# Altium schematic symbol library Richs Schematic Components.SchLib: 220 symbols (part 1 of 2)
Pins are listed as number, name and electrical type; pins without a type are passive.

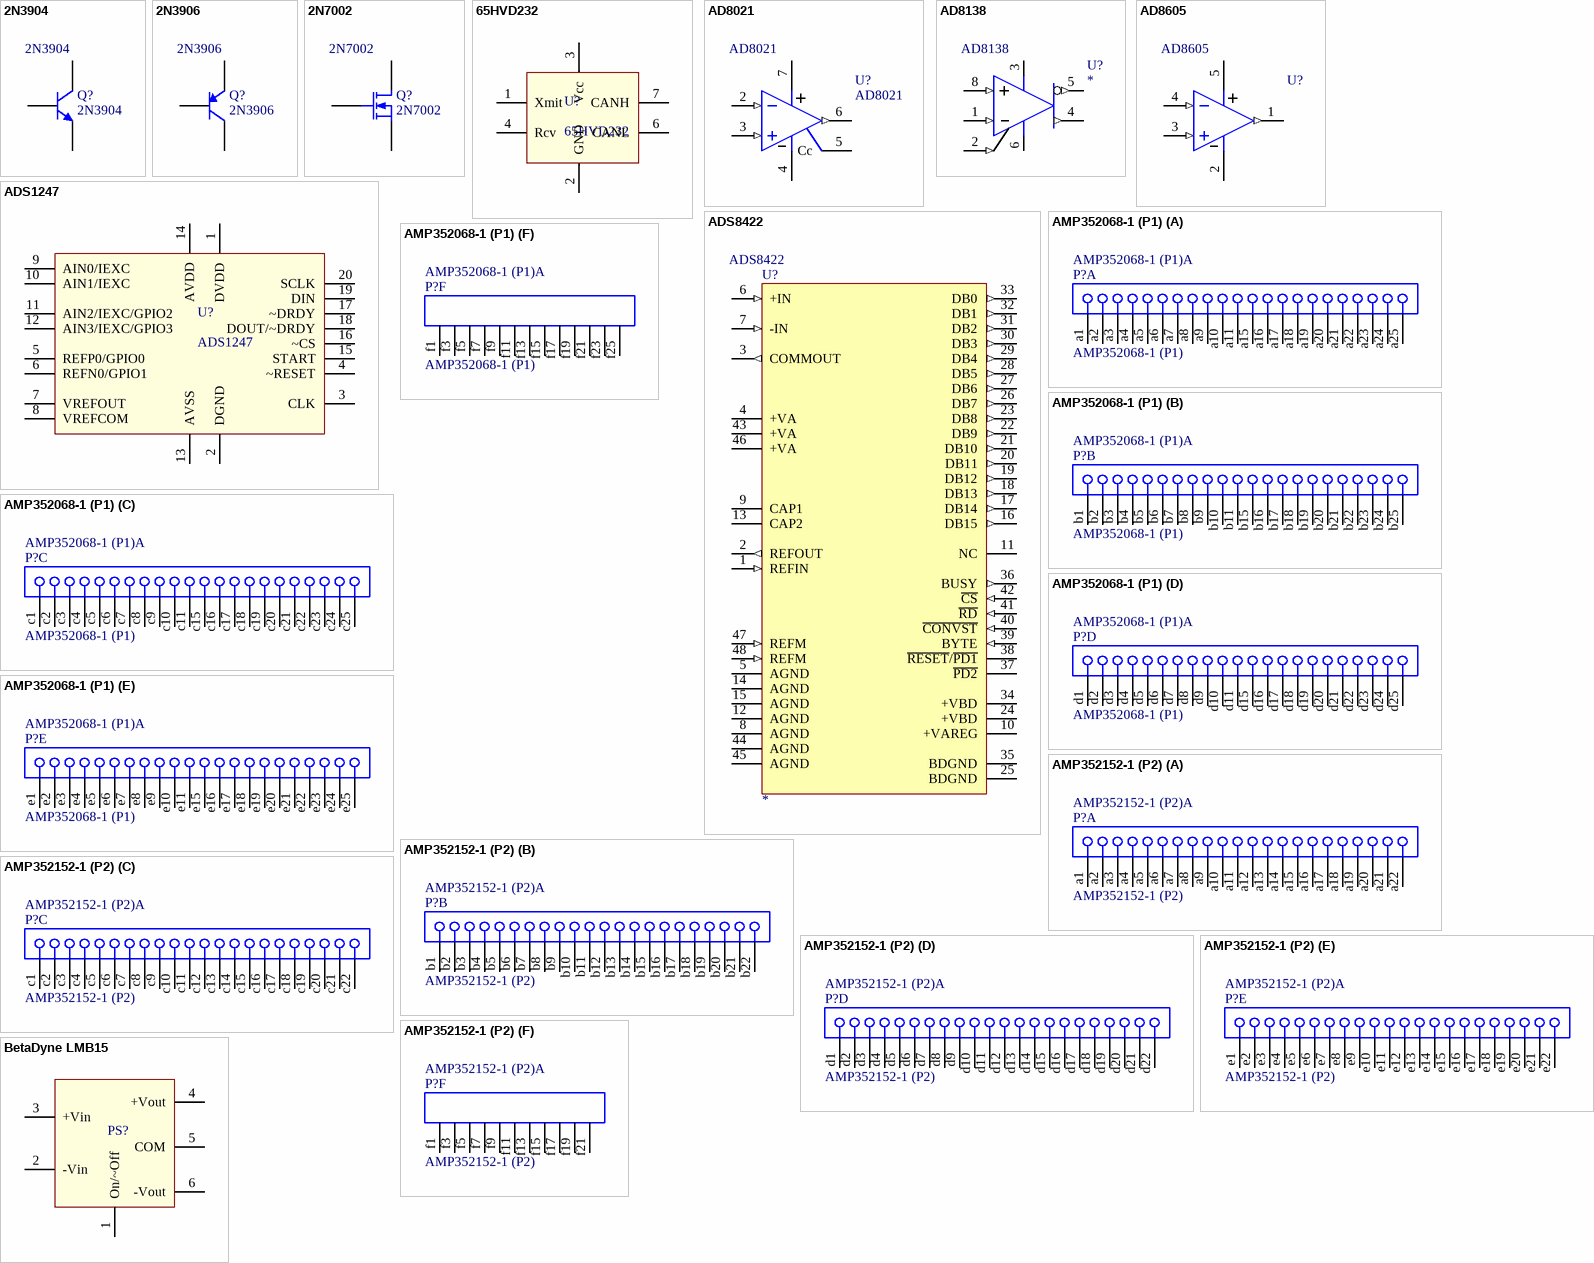
[diagram p0: symbols 2N3904 to BetaDyne LMB15]

## 2N3904
designator Q?
NPN SOT23; VALUE: 2N3904
footprint SOT23 (SOT-23; 3 Leads; Body 3.1 x 2.5 mm, inc. leads (LxW max), Alternate Lead Configuration)
pins: 1 C, 2 E, 3 B

## 2N3906
designator Q?
PNP SOT23; VALUE: 2N3906
footprint SOT23 (SOT-23; 3 Leads; Body 3.1 x 2.5 mm, inc. leads (LxW max), Alternate Lead Configuration)
pins: 1 C, 2 E, 3 B

## 2N7002
designator Q?
N-Chan MOSFET; Manufacturer: STMicroelectronics; Vendor: Digi-Key; Vendor p/n: 497-3111-1-ND; Vendor Mult.: 1; LCO p/n: xxxxxx; Manuf p/n: 2N7002; COST: 0.45; VALUE: 2N7002
footprint SOT23A (SOT-23; 3 Leads; Body 3.0 x 2.5 mm, inc. leads (LxW max))
pins: 1 G, 2 S, 3 D

## 65HVD232
designator U?
CAN transciever 3.3V; Manufacturer: Texas Instruments; Manuf p/n: SN65HVD232QDRQ1; Vendor: DigiKey; Vendor Mult.: 1; Vendor p/n: 296-15381-1-ND; LCO p/n: 150-00003; COST: 4.50; VALUE: 65HVD232
footprint SOIC8NA_M (8-Pin Small Outline Integrated Circuit 1.27 mm Pitch, IPC Low Density)
pins: 1 Xmit, 2 GND, 3 Vcc, 4 Rcv, 6 CANL, 7 CANH

## AD8021
designator U?
Low Noise, High Speed Amplifier; VALUE: AD8021
footprint RM-8 (Shrink Small Outline, MSOP; 8 Leads; Body Width 3 mm; Pitch 0.65 mm)
pins: 1 LOGIC REF hidden, 2 IN- (in), 3 IN+ (in), 4 V- (power), 5 Cc, 6 OUT (out), 7 V+ (power), 8 /DISABLE hidden

## AD8138
designator U?  value AD8138
AD8138
footprint 182h_m (8-Pin Small Outline Integrated Circuit 1.27 mm Pitch, IPC Low Density)
pins: 1 -IN (in), 2 VOCM (in), 3 V+, 4 +OUT (out), 5 -OUT (out), 6 V-, 7 NC hidden, 8 +IN (in)

## AD8605
designator U?
CMOS, Rail-to-Rail Opamp; Manufacturer: Analog Devices Inc; Manuf p/n: AD8605ARTZ-REEL7; Vendor: Digi-Key; Vendor p/n: AD8605ARTZREEL7CT-ND; Vendor Mult.: 1; LCO p/n: 150-00039; COST: AD8605; VALUE: AD8605
footprint SMD_SOT23_5
pins: 1 LOGIC REF hidden, 1 OUT (out), 2 V- (power), 3 IN+ (in), 4 IN- (in), 5 V+ (power), 8 /DISABLE hidden

## ADS1247
designator U?
24bit ADC for Temp Sensors; Manufacturer: TI; Manuf p/n: ADS1247IPW; LCO p/n: 150-00106; Vendor: DK; Vendor p/n: 296-24293-5-ND
footprint TSSOP20 (Shrink Small Outline; 20 Leads; Body Width 4.4 mm; Pitch 0.65 mm)
pins: 1 DVDD, 2 DGND, 3 CLK, 4 ~RESET, 5 REFP0/GPIO0, 6 REFN0/GPIO1, 7 VREFOUT, 8 VREFCOM, 9 AIN0/IEXC, 10 AIN1/IEXC, 11 AIN2/IEXC/GPIO2, 12 AIN3/IEXC/GPIO3, 13 AVSS, 14 AVDD, 15 START, 16 ~CS, 17 ~DRDY, 18 DOUT/~DRDY, 19 DIN, 20 SCLK

## ADS8422
designator U?  value ADS8422
AD8422; Manufacturer: TI; Manuf p/n: ADS8422IBPFBT; Vendor: Mouser; Vendor p/n: 595-ADS8422IBPFBT; Vendor Mult.: 1; LCO p/n: 150-00023; COST: 49.42
footprint TQFP48_m (48-Pin Thin Quad Flat Pack 0.5 mm Pitch, IPC Low Density)
pins: 1 REFIN (in), 2 REFOUT (out), 3 COMMOUT (out), 4 +VA, 5 AGND, 6 +IN (in), 7 -IN (in), 8 AGND, 9 CAP1, 10 +VAREG, 11 NC, 12 AGND, 13 CAP2, 14 AGND, 15 AGND, 16 DB15 (out), 17 DB14 (out), 18 DB13 (out), 19 DB12 (out), 20 DB11 (out), 21 DB10 (out), 22 DB9 (out), 23 DB8 (out), 24 +VBD, 25 BDGND, 26 DB7 (out), 27 DB6 (out), 28 DB5 (out), 29 DB4 (out), 30 DB3 (out), 31 DB2 (out), 32 DB1 (out), 33 DB0 (out), 34 +VBD, 35 BDGND, 36 BUSY (out), 37 ~{PD2}, 38 ~{RESET}/~{PD1}, 39 BYTE (in), 40 ~{CONVST} (in), 41 ~{RD} (in), 42 ~{CS} (in), 43 +VA, 44 AGND, 45 AGND, 46 +VA, 47 REFM (in), 48 REFM (in)

## AMP352068-1 (P1)
designator P?  value AMP352068-1 (P1)A
PXI P1 TYPE A, 110PIN
footprint PXI P1 Type A 110PIN (Connector; CompactPCI; 110 Position; Right Angle)
part A pins: a1, a2, a3, a4, a5, a6, a7, a8, a9, a10, a11, a15, a16, a17, a18, a19, a20, a21, a22, a23, a24, a25
part B pins: b1, b2, b3, b4, b5, b6, b7, b8, b9, b10, b11, b15, b16, b17, b18, b19, b20, b21, b22, b23, b24, b25
part C pins: c1, c2, c3, c4, c5, c6, c7, c8, c9, c10, c11, c15, c16, c17, c18, c19, c20, c21, c22, c23, c24, c25
part D pins: d1, d2, d3, d4, d5, d6, d7, d8, d9, d10, d11, d15, d16, d17, d18, d19, d20, d21, d22, d23, d24, d25
part E pins: e1, e2, e3, e4, e5, e6, e7, e8, e9, e10, e11, e15, e16, e17, e18, e19, e20, e21, e22, e23, e24, e25
part F pins: f1, f3, f5, f7, f9, f11, f13, f15, f17, f19, f21, f23, f25

## AMP352152-1 (P2)
designator P?  value AMP352152-1 (P2)A
PXI P2 TYPE B, 110PIN
footprint PXI P2 TYPE B 110PIN (Connector; CompactPCI; 110 Position; Right Angle)
footprint 352152-1 PXI pinout (Connector; CompactPCI; 110 Position; Right Angle)
part A pins: a1, a2, a3, a4, a5, a6, a7, a8, a9, a10, a11, a12, a13, a14, a15, a16, a17, a18, a19, a20, a21, a22
part B pins: b1, b2, b3, b4, b5, b6, b7, b8, b9, b10, b11, b12, b13, b14, b15, b16, b17, b18, b19, b20, b21, b22
part C pins: c1, c2, c3, c4, c5, c6, c7, c8, c9, c10, c11, c12, c13, c14, c15, c16, c17, c18, c19, c20, c21, c22
part D pins: d1, d2, d3, d4, d5, d6, d7, d8, d9, d10, d11, d12, d13, d14, d15, d16, d17, d18, d19, d20, d21, d22
part E pins: e1, e2, e3, e4, e5, e6, e7, e8, e9, e10, e11, e12, e13, e14, e15, e16, e17, e18, e19, e20, e21, e22
part F pins: f1, f3, f5, f7, f9, f11, f13, f15, f17, f19, f21

## BetaDyne LMB15
designator PS?  (value not drawn)
DC/DC LMB15 15W, Dual Output
footprint BetaDyne LNB15, DC/DC (15W Low Noise)
pins: 1 On/~Off, 2 -Vin, 3 +Vin, 4 +Vout, 5 COM, 6 -Vout

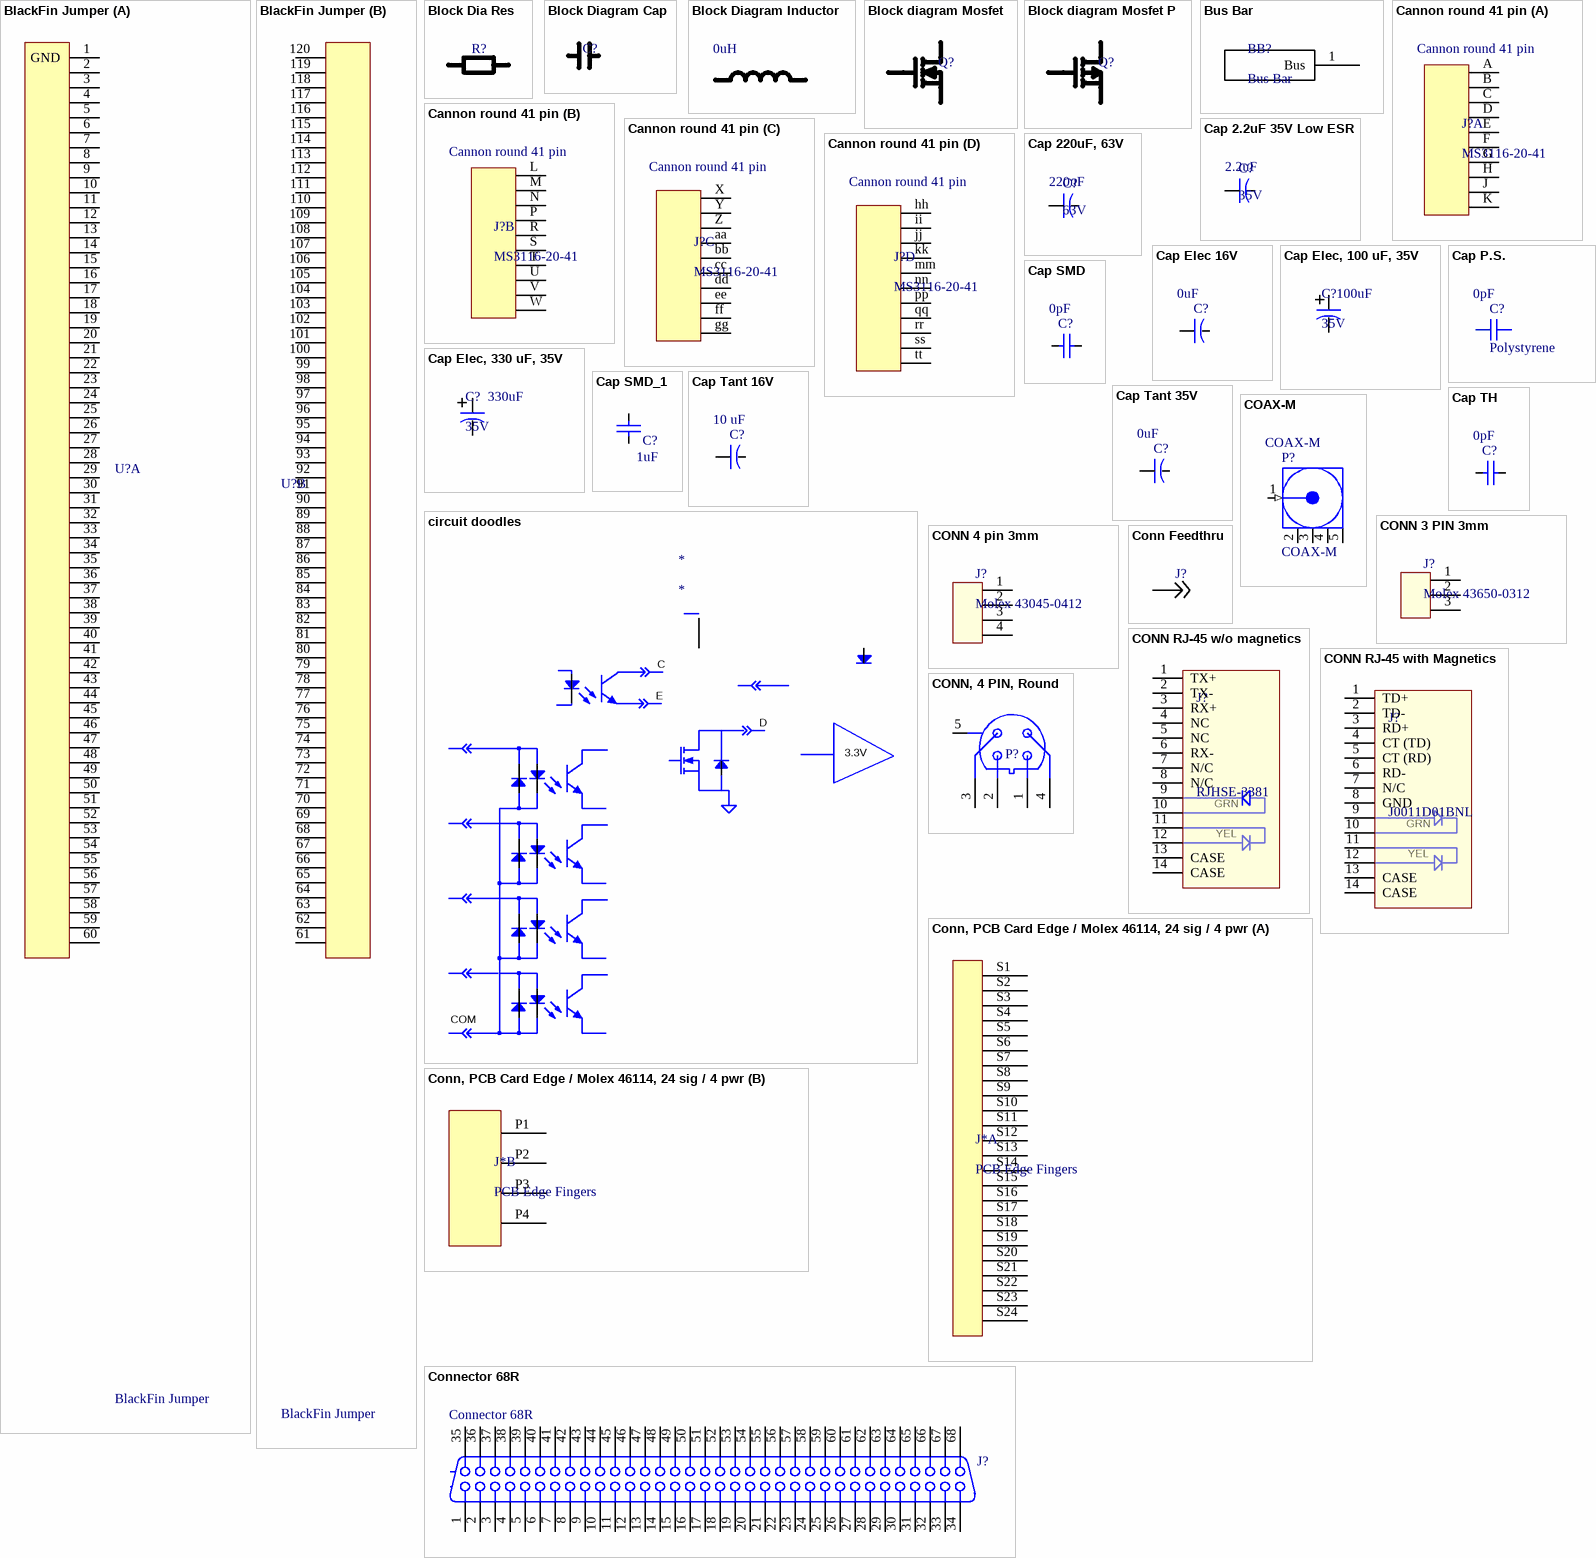
[diagram p1: symbols BlackFin Jumper to Connector 68R]

## BlackFin Jumper
designator U?
Jumper to replace BF with shorting block; Manufacturer: HiRose; Manuf p/n: FX8-60P-SV(21); LCO p/n: 125-00091; Vendor: Digi-Key; Vendor Mult.: 1; Vendor p/n: H10686-ND
footprint CM-BF5xx - Shorting Block (For jumper board that replaces BF module)
part A pins: 1 GND, 2, 3, 4, 5, 6, 7, 8, 9, 10, 11, 12, 13, 14, 15, 16, 17, 18, 19, 20, 21, 22, 23, 24, 25, 26, 27, 28, 29, 30, 31, 32, 33, 34, 35, 36, 37, 38, 39, 40, 41, 42, 43, 44, 45, 46, 47, 48, 49, 50, 51, 52, 53, 54, 55, 56, 57, 58, 59, 60
part B pins: 61, 62, 63, 64, 65, 66, 67, 68, 69, 70, 71, 72, 73, 74, 75, 76, 77, 78, 79, 80, 81, 82, 83, 84, 85, 86, 87, 88, 89, 90, 91, 92, 93, 94, 95, 96, 97, 98, 99, 100, 101, 102, 103, 104, 105, 106, 107, 108, 109, 110, 111, 112, 113, 114, 115, 116, 117, 118, 119, 120

## Block Dia Res
designator R?  (value not drawn)

## Block Diagram Cap
designator C?  (value not drawn)
Capacitor; VALUE: 0pF
footprint SMD_0805

## Block Diagram Inductor
designator ?  value 0uH  (hidden comment: Block Diagram Inductor)
Inductor
simulation model INDUCTOR (Inductor)
signal-integrity model Inductor
footprint SMD_1210_INDUCT

## Block diagram Mosfet
designator Q?  (value not drawn)
N-Chan MOSFET; VALUE: 2N7002
footprint SOT23 (SOT-23; 3 Leads; Body 3.1 x 2.5 mm, inc. leads (LxW max), Alternate Lead Configuration)

## Block diagram Mosfet P
designator Q?  (value not drawn)
P-Chan MOSFET; VALUE: 2N7002
footprint SOT23 (SOT-23; 3 Leads; Body 3.1 x 2.5 mm, inc. leads (LxW max), Alternate Lead Configuration)

## Bus Bar
designator BB?
footprint Bus Bar 1.5" pitch (Rigid/Bus Bar)
pins: 1 Bus

## Cannon round 41 pin
designator J?, comment MS3116-20-41  value Cannon round 41 pin
footprint MS-3116 Size 20-41, Female (Round Size 20, 41 POS, Female sockets)
footprint MS-3116 Size 20-41, Male (Round Size 20, 41 pos, Male Pins)
part A pins: A, B, C, D, E, F, G, H, J, K
part B pins: L, M, N, P, R, S, T, U, V, W
part C pins: aa a, bb b, cc c, dd d, ee e, ff f, gg g, X, Y, Z
part D pins: hh h, ii i, jj j, kk k, mm m, nn, pp p, qq q, rr r, ss s, tt t

## Cap 2.2uF 35V Low ESR
designator C?, comment 35V  value 2.2uF
outline 3.2mm x 1.6 mm, 1206; Manufacturer: AVX; Manuf p/n: TPSA225K035R1500; Vendor: DigiKey; Vendor p/n: 478-3105-1-ND; Vendor Mult.: 1; COST: 0.90
footprint SMD_CAP_3216
pins: 1, 2

## Cap 220uF, 63V
designator C?, comment 63V  value 220uF
CAP 220UF 63V ELECT MVH SMD; Manufacturer: United Chemi-Con; Manuf p/n: EMVH630ARA221MKG5S; Vendor: DigiKey; Vendor p/n: 565-2337-1-ND; Vendor Mult.: 5; COST: 2.10
footprint CAP 220uF 63V (United Chemi-Con size KG5)
pins: 1, 2

## Cap Elec 16V
designator C?, comment value 0uF  (hidden comment: 16V Elec)
Panasonic TG series low ESR
footprint SMD_Pana size H13 (Size H13)
footprint SMD_Pana TG (Size J16)
pins: 1, 2

## Cap Elec, 100 uF, 35V
designator C?, comment 35V  value 100uF
Radial Thru hole
footprint CAP, Thru Hole 8mm dia
pins: 1, 2

## Cap Elec, 330 uF, 35V
designator C?, comment 35V  value 330uF
Radial Thru hole
footprint CAP, Thru Hole 10mm dia
pins: 1, 2

## Cap P.S.
designator C?, comment Polystyrene  value 0pF
Square Polystyrene Cap
footprint Cap P.S.
pins: 1, 2

## Cap SMD
designator C?  value 0pF  (hidden comment: Cap SMD)
Capacitor
footprint smd_0805
pins: 1, 2

## Cap SMD_1
designator C?, comment value 1uF  (hidden comment: Cap SMD)
Capacitor
footprint SMD_0805
pins: 1, 2

## Cap Tant 16V
designator C?, comment value 10 uF  (hidden comment: 16V)
outline 3.2mm x 1.6mm; Manufacturer: KEMET; Manuf p/n: T494A106M016AT; Vendor: DIGIKEY; Vendor p/n: 399-3824-1-ND; Vendor Mult.: 1; LCO p/n: 120-00001; COST: 0.78
footprint SMD_CAP_3216
pins: 1, 2

## Cap Tant 35V
designator C?, comment value 0uF  (hidden comment: 35V)
outline 6.0mm x 3.2mm
footprint SMD_CAP_6032
footprint SMD_CAP_7343
pins: neg 2, pos 1

## Cap TH
designator C?  value 0pF  (hidden comment: Cap TH)
Capacitor
footprint RAD-0.1 (Indicating Instrument; 2 Leads)
footprint RAD-0.2 (Jumper Wire; 2 Leads)
pins: 1, 2

## circuit doodles
designator *
pins: 2 S
text: C; E; D; 3.3V; COM

## COAX-M
designator P?
RF Coaxial PCB Connector, MMCX; Thru-Hole, Vertical Mount Plug,  50 Ohm Impedance; VALUE: COAX-M
footprint MMCX2.54-V5 (Connector; RF Coaxial, MMCX, Thru-Hole; 5 Position; Vertical)
pins: 1 Signal (in) "Signal Pin", 2 GND (power), 3 GND (power), 4 GND (power), 5 GND (power)

## CONN 3 PIN 3mm
designator J?, comment Molex 43650-0312
footprint CONN Molex Micro-fit (SMT, 3-pos)
pins: 1, 2, 3

## CONN 4 pin 3mm
designator J?, comment Molex 43045-0412
Molex Micro Fit 3, Vert PC mount; LCO p/n: 125-00121; Vendor: Digi-Key; Vendor Mult.: 1; Vendor p/n: WM1790-ND; Manufacturer: Molex; Manuf p/n: 43045-0412
footprint CONN Molex Micro-fit, 4 POS (Thru Hole Vert 4-pos)
pins: 1, 2, 3, 4

## Conn Feedthru
designator J?  (value not drawn)
Small feedthru; VALUE: Conn Feedthru
footprint Conn feed thru (simple feed thru)
pins: 1

## CONN RJ-45 w/o magnetics
designator J?, comment RJHSE-3381
Vertical PC mount, w/o magnetics; LCO p/n: 125-00040
signal-integrity model Modular Jack
footprint RJ45, VERT MOUNT, NO MAGNETICS (Amphenol p/n RJHSE-3381)
pins: 1 TX+, 2 TX-, 3 RX+, 4 NC, 5 NC, 6 RX-, 7 N/C, 8 N/C, 9 GRN-Anode, 10 GRN-Cathode, 11 YEL-Cathode, 12 YEL-Anode, 13 CASE, 14 CASE
text: GRN; YEL

## CONN RJ-45 with Magnetics
designator J?, comment J0011D01BNL
Right Angle, Standard Profile, RJ45-Keyed, Flange Mount PCB Jack
signal-integrity model Modular Jack
footprint RJ-45 w/magnetics (Conn, Pulse Eng p/n J0011D01BNL)
pins: 1 TD+, 2 TD-, 3 RD+, 4 CT (TD), 5 CT (RD), 6 RD-, 7 N/C, 8 GND, 9 GRN-Anode, 10 GRN-Cathode, 11 YEL-Cathode, 12 YEL-Anode, 13 CASE, 14 CASE
text: GRN; YEL

## CONN, 4 PIN, Round
designator P?  (value not drawn)
Phoenix M12, 4 Pos, PCB; Manufacturer: Phoenix Contact; Manuf p/n: 1694240; VALUE: M12 PCB MT SKT 5P; Vendor: Mouser; Vendor Mult.: 1; Vendor p/n: 651-1694240; LCO p/n: 125-00006; COST: 15.05
footprint Phoenix M12, 5-Pos (PCB Mount Phoenix p/n 1534630)
pins: 1, 2, 3, 4, 5 GND

## Conn, PCB Card Edge / Molex 46114, 24 sig / 4 pwr
designator J*, comment PCB Edge Fingers
PCB Edge Conn to fit Molex 46114 backplane connector
footprint PCB EDGE, MOLEX 46114 (Mates with Molex 46114-4241)
part A pins: S1, S2, S3, S4, S5, S6, S7, S8, S9, S10, S11, S12, S13, S14, S15, S16, S17, S18, S19, S20, S21, S22, S23, S24
part B pins: P1 S25, P2 S26, P3 S27, P4 S28

## Connector 68R
designator J?
Receptacle Header Assemby; VALUE: Connector 68R
footprint CHAMP1.27-2H68 (Connector; 68 Position; Right Angle; Pitch 1.27 mm)
signal-integrity model Connector
pins: 1, 2, 3, 4, 5, 6, 7, 8, 9, 10, 11, 12, 13, 14, 15, 16, 17, 18, 19, 20, 21, 22, 23, 24, 25, 26, 27, 28, 29, 30, 31, 32, 33, 34, 35, 36, 37, 38, 39, 40, 41, 42, 43, 44, 45, 46, 47, 48, 49, 50, 51, 52, 53, 54, 55, 56, 57, 58, 59, 60, 61, 62, 63, 64, 65, 66, 67, 68

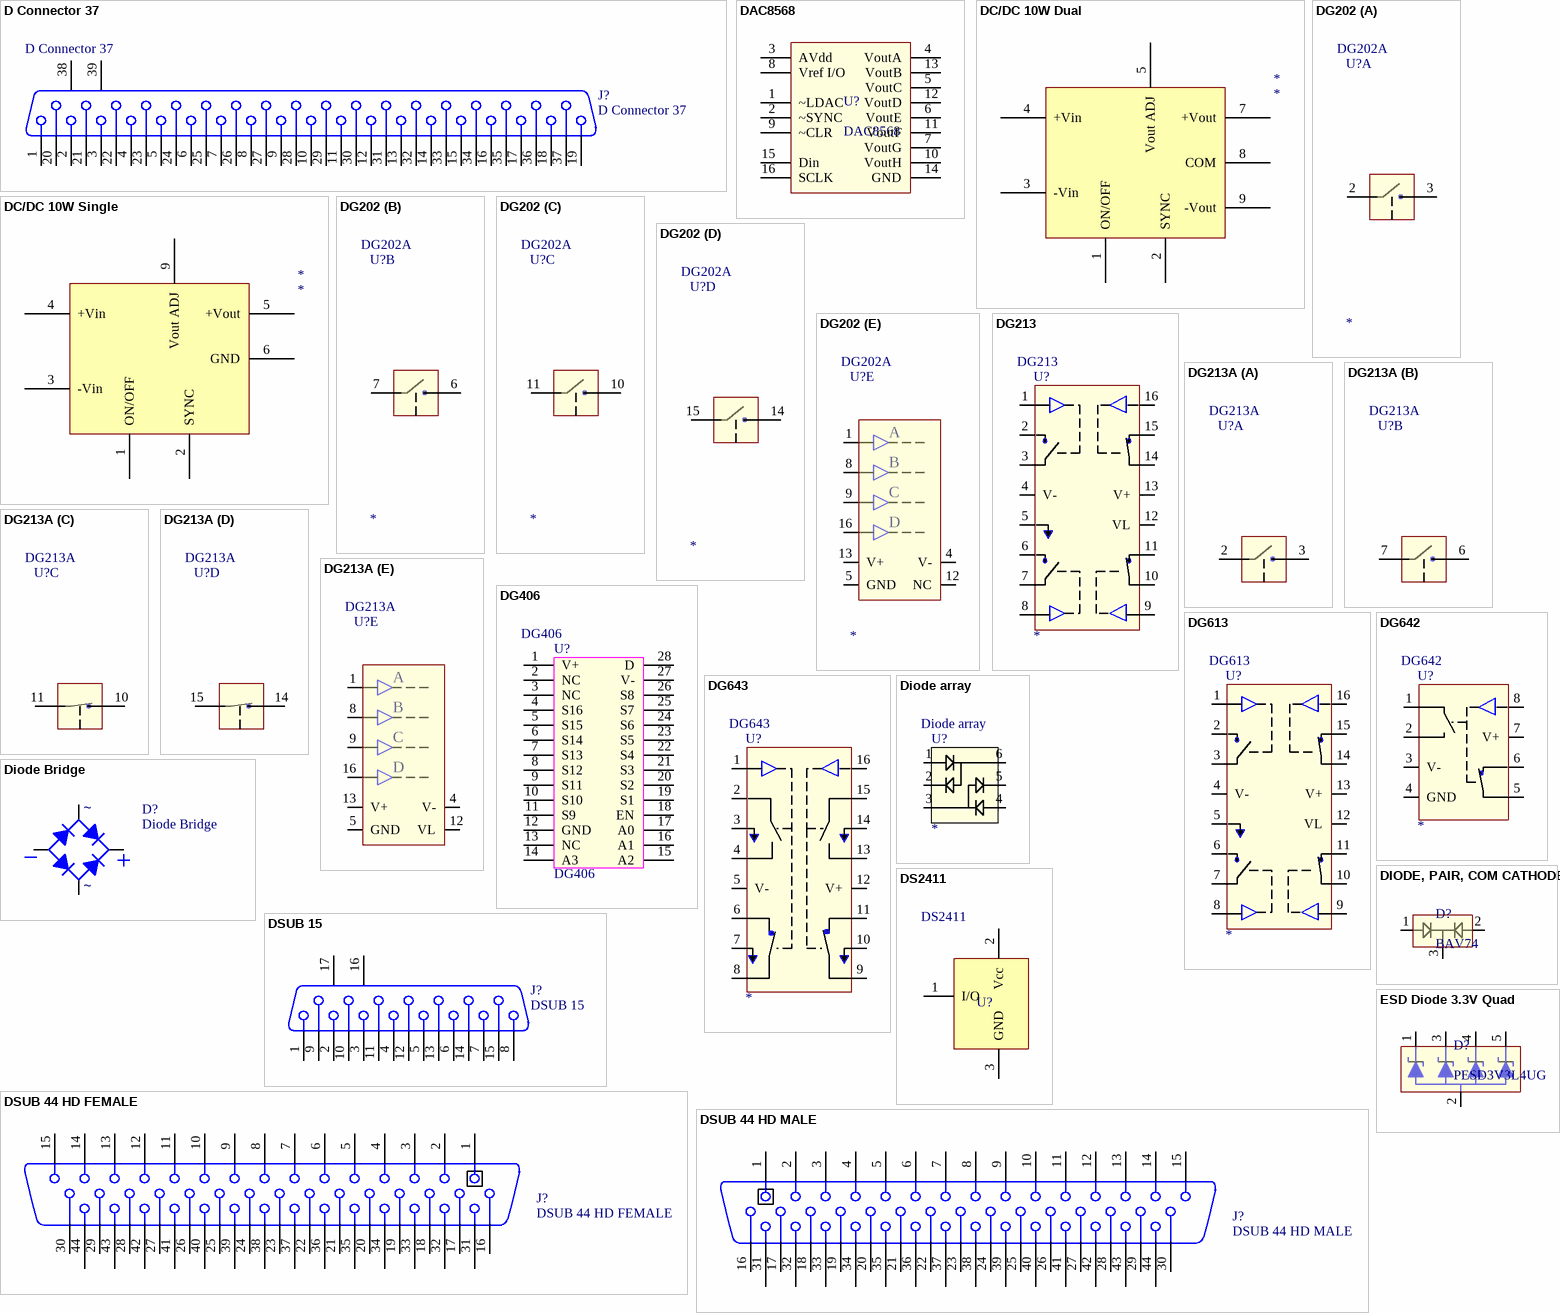
[diagram p2: symbols D Connector 37 to ESD Diode 3.3V Quad]

## D Connector 37
designator J?
Receptacle Assembly, 37 Position, Right Angle; VALUE: D Connector 37
footprint DSUB37 RT FEM (Connector; D Subminiature; 37 Position; Right Angle; Pitch 1.385 mm)
signal-integrity model Connector
pins: 1, 2, 3, 4, 5, 6, 7, 8, 9, 10, 11, 12, 13, 14, 15, 16, 17, 18, 19, 20, 21, 22, 23, 24, 25, 26, 27, 28, 29, 30, 31, 32, 33, 34, 35, 36, 37, 38 MH2, 39 MH1

## DAC8568
designator U?
8 Chan, 16-bit DAC, SPI Interface; Manufacturer: TI; Manuf p/n: DAC8568IAPW; LCO p/n: XXXXXXXXXXXXXXX; Vendor: DK; Vendor p/n: 296-24444-5-ND; VALUE: DAC8568
footprint TSSOP16 (Shrink Small Outline; 16 Leads; Body Width 4.4 mm; Pitch 0.65 mm)
pins: 1 ~LDAC, 2 ~SYNC, 3 AVdd, 4 VoutA, 5 VoutC, 6 VoutE, 7 VoutG, 8 Vref I/O, 9 ~CLR, 10 VoutH, 11 VoutF, 12 VoutD, 13 VoutB, 14 GND, 15 Din, 16 SCLK

## DC/DC 10W Dual
designator *
VALUE: DC/DC 10W Dual
footprint BetaDyne DC/DC 10W
pins: 1 ON/OFF, 2 SYNC, 3 -Vin, 4 +Vin, 5 Vout ADJ, 7 +Vout, 8 COM, 9 -Vout

## DC/DC 10W Single
designator *
VALUE: DC/DC 10W Single
footprint BetaDyne DC/DC 10W
pins: 1 ON/OFF, 2 SYNC, 3 -Vin, 4 +Vin, 5 +Vout, 6 GND, 9 Vout ADJ

## DG202
designator U?  value DG202A
DG202 SPST N.O.
footprint SOIC16 (Small Outline; 16 Leads; Body Width 3.9 mm; Pitch 1.27 mm)
part A pins: 2 D1, 3 S1
part B pins: 6 D2, 7 S2
part C pins: 10 S3, 11 D3
part D pins: 14 S4, 15 D4
part E pins: 1 IN1, 4 V-, 5 GND, 8 IN1, 9 IN1, 12 NC, 13 V+, 16 IN1
part E text: A; B; C; D

## DG213
designator U?  value DG213
DG213 Rail to Rail inputs
footprint SOIC16 (Small Outline; 16 Leads; Body Width 3.9 mm; Pitch 1.27 mm)
pins: 1 IN1, 2 D1, 3 S1, 4 V-, 5 GND, 6 D2, 7 S2, 8 IN2, 9 IN3, 10 D3, 11 S4, 12 VL, 13 V+, 14 S4, 15 D4, 16 IN4

## DG213A
designator U?  value DG213A  (hidden comment: *)
DG213 QUAD NO/NC; Manufacturer: VISHAY; Manuf p/n: DG213DY-T1-E3; Vendor: DIGIKEY; Vendor p/n: DG213DY-T1-E3CT-ND; Vendor Mult.: 1; LCO p/n: 150-00028; COST: 2.73
footprint SOIC16 (Small Outline; 16 Leads; Body Width 3.9 mm; Pitch 1.27 mm)
part A pins: 2 D1, 3 S1
part B pins: 6 D2, 7 S2
part C pins: 10 S3, 11 D3
part D pins: 14 S4, 15 D4
part E pins: 1 IN1, 4 V-, 5 GND, 8 IN1, 9 IN1, 12 VL, 13 V+, 16 IN1
part E text: A; B; C; D

## DG406
designator U?
16 TO 1 MUX; VALUE: DG406
footprint SMD_SOW28_W/D
pins: 1 V+, 2 NC, 3 NC, 4 S16, 5 S15, 6 S14, 7 S13, 8 S12, 9 S11, 10 S10, 11 S9, 12 GND, 13 NC, 14 A3, 15 A2, 16 A1, 17 A0, 18 EN, 19 S1, 20 S2, 21 S3, 22 S4, 23 S5, 24 S6, 25 S7, 26 S8, 27 V-, 28 D

## DG613
designator U?  value DG613
DG613  Low glitch
footprint SOIC16 (Small Outline; 16 Leads; Body Width 3.9 mm; Pitch 1.27 mm)
pins: 1 IN1, 2 D1, 3 S1, 4 V-, 5 GND, 6 D2, 7 S2, 8 IN2, 9 IN3, 10 D3, 11 S4, 12 VL, 13 V+, 14 S4, 15 D4, 16 IN4

## DG642
designator U?  value DG642
DG642; Manufacturer: VISHAY; Manuf p/n: DG642DY-E3; Vendor: Newark; Vendor p/n: 49K9688; Vendor Mult.: 1; LCO p/n: 150-00029; COST: 2.00
footprint 182H_m (8-Pin Small Outline Integrated Circuit 1.27 mm Pitch, IPC Low Density)
pins: 1 S1, 2 D1, 3 V-, 4 GND, 5 S2, 6 D2, 7 V+ "VGFHSDF", 8 IN

## DG643
designator U?  value DG643
DG643
footprint SOIC16 (Small Outline; 16 Leads; Body Width 3.9 mm; Pitch 1.27 mm)
pins: 1 IN1, 2 D1, 3 GND, 4 S1, 5 V-, 6 S4, 7 GND, 8 D4, 9 D3, 10 GND, 11 S3, 12 V+, 13 S2, 14 GND, 15 D2, 16 IN2

## Diode array
designator U?  value Diode array
Dual series array; Manufacturer: DIODES INC; Manuf p/n: BAS70DW-04-7-F; Vendor: DIGIKEY; Vendor p/n: BAS70DW-04-FDICT-ND; Vendor Mult.: 1; LCO p/n: 150-00025; COST: 0.67
footprint SOT-363 (SOT-363/SC-88; 6 Leads; Body 2.2 x 2.2 mm, inc. leads (LxW max))
pins: 1 A1, 2 C1, 3 AC2, 4 A2, 5 C2, 6 AC1

## Diode Bridge
designator D?
Full Wave Diode Bridge; Manufacturer: Comchip Technology; Manuf p/n: CDBHM260L-HF; LCO p/n: 140-00014; VALUE: 60V 2A; Vendor: DK; Vendor p/n: 641-1434-1-ND
simulation model BRIDGE (Spice Subcircuit)
footprint DIODE BRIDGE, MBS-2 (SMD DIODE BRIDGE)
pins: 1 K, 2 A, 3 C, 4 C
text: ~

## DIODE, PAIR, COM CATHODE
designator D?, comment BAV74
DIODE, PAIR, COM CATHODE; LCO p/n: 150-00095; Vendor: Digi-Key; Vendor p/n: 568-1623-1-ND
footprint SOT23A (SOT-23; 3 Leads; Body 3.0 x 2.5 mm, inc. leads (LxW max))
pins: 1 A1, 2 C1, 3 AC2

## DS2411
designator U?  value DS2411  (hidden comment: *)
Silicon Serial Number; Manufacturer: MAXIM; Manuf p/n: DS2411R+T&R; Vendor: DIGIKEY; Vendor p/n: DS2411R+CT-ND; Vendor Mult.: 1; LCO p/n: 150-00031; COST: 1.25
footprint SMD_SOT23_3
pins: 1 I/O, 2 Vcc, 3 GND

## DSUB 15
designator J?
Receptacle Assembly, 15 Position
signal-integrity model Connector
footprint DSUB15 PCB VERT Female (NorComp p/n 172-015-212R911)
pins: 1, 2, 3, 4, 5, 6, 7, 8, 9, 10, 11, 12, 13, 14, 15, 16 MH1, 17 MH2

## DSUB 44 HD FEMALE
designator J?
Receptacle Assembly, 44 PIN; Manufacturer: fci; Manuf p/n: 10090929-S444XLF; LCO p/n: 125-00126; Vendor: digi-key; Vendor p/n: 609-4035-ND
signal-integrity model Connector
footprint CONN DB44 HD FEM SOCKETS PCB (PCB VERTICAL MOUNT)
pins: 1, 2, 3, 4, 5, 6, 7, 8, 9, 10, 11, 12, 13, 14, 15, 16, 17, 18, 19, 20, 21, 22, 23, 24, 25, 26, 27, 28, 29, 30, 31, 32, 33, 34, 35, 36, 37, 38, 39, 40, 41, 42, 43, 44

## DSUB 44 HD MALE
designator J?
Receptacle Assembly, 44 PIN; Manufacturer: FCI; Manuf p/n: 10090928-P444XLF; LCO p/n: 125-00127; Vendor: Digi-Key; Vendor p/n: 609-4030-ND
signal-integrity model Connector
footprint CONN DB44 HD MALE PINS PCB (PCB VERTICAL MOUNT)
pins: 1, 2, 3, 4, 5, 6, 7, 8, 9, 10, 11, 12, 13, 14, 15, 16, 17, 18, 19, 20, 21, 22, 23, 24, 25, 26, 27, 28, 29, 30, 31, 32, 33, 34, 35, 36, 37, 38, 39, 40, 41, 42, 43, 44

## ESD Diode 3.3V Quad
designator D?, comment PESD3V3L4UG
Quad ESD Diode 3.3V; Manufacturer: NXP; LCO p/n: XXXXXX; VALUE: ESDx4 3.3V; Vendor: Digi_Key; Vendor Mult.: 1; Vendor p/n: 568-4042-1-ND; COST: .52; Manuf p/n: PESD3V3L4UG
footprint SOT-353
pins: 1, 2, 3, 4, 5

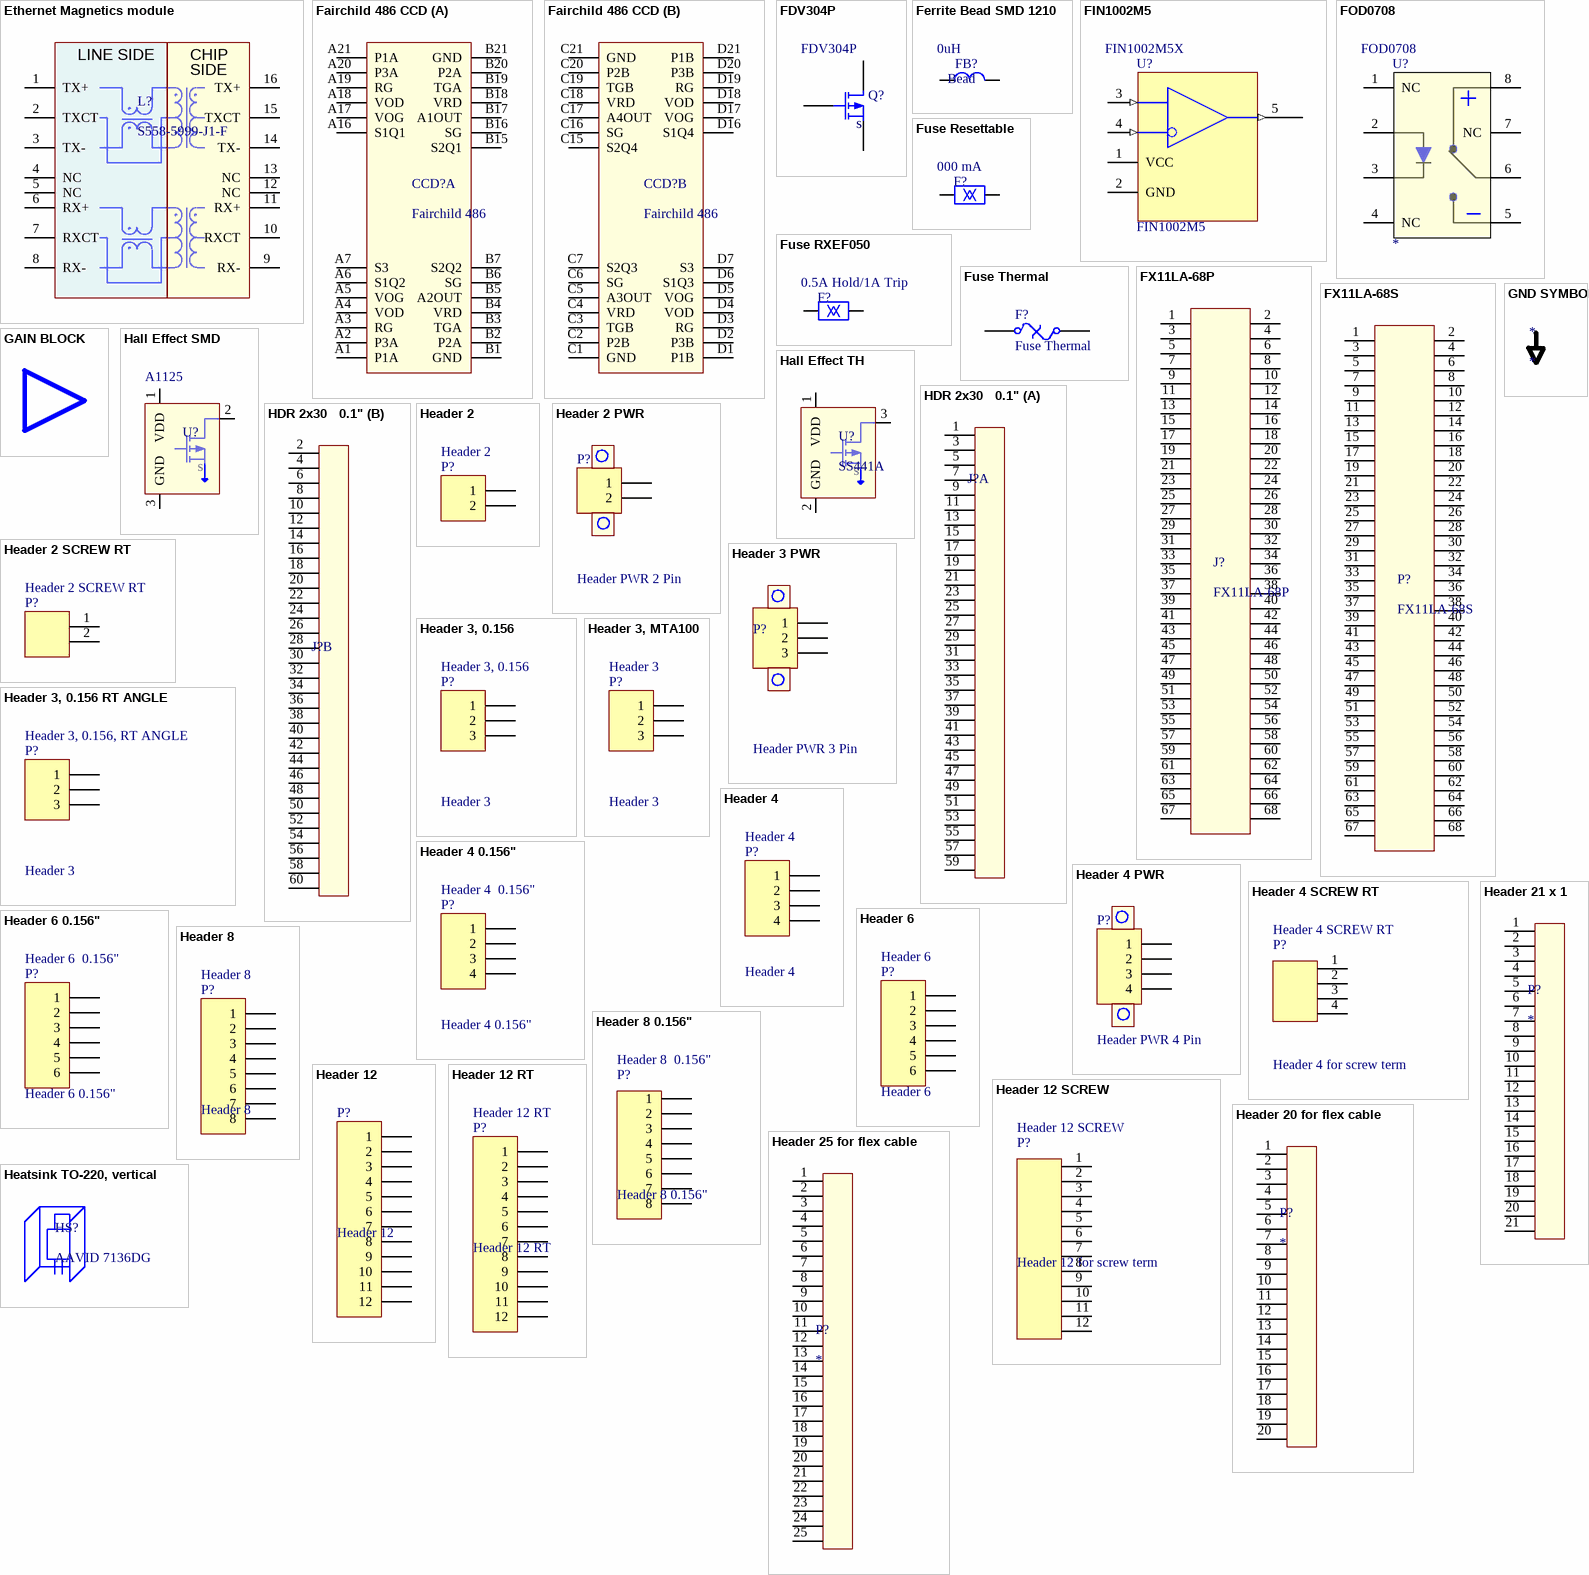
[diagram p3: symbols Ethernet Magnetics module to Heatsink TO-220, vertical]

## Ethernet Magnetics module
designator L?, comment S558-5999-J1-F
10/100BT Magnetics Module; LCO p/n: 155-00014
footprint 10/100BT Magetics module (bel p/n S558-6-5999-J1-F)
pins: 1 TX+, 2 TXCT, 3 TX-, 4 NC, 5 NC, 6 RX+, 7 RXCT, 8 RX-, 9 RX-, 10 RXCT, 11 RX+, 12 NC, 13 NC, 14 TX-, 15 TXCT, 16 TX+
text: LINE SIDE; CHIP; SIDE

## Fairchild 486 CCD
designator CCD?, comment Fairchild 486
footprint Fairchild 486 (486 CCD)
part A pins: A1 P1A, A2 P3A, A3 RG, A4 VOD, A5 VOG, A6 S1Q2, A7 S3, A16 S1Q1, A17 VOG, A18 VOD, A19 RG, A20 P3A, A21 P1A, B1 GND, B2 P2A, B3 TGA, B4 VRD, B5 A2OUT, B6 SG, B7 S2Q2, B15 S2Q1, B16 SG, B17 A1OUT, B18 VRD, B19 TGA, B20 P2A, B21 GND
part B pins: C1 GND, C2 P2B, C3 TGB, C4 VRD, C5 A3OUT, C6 SG, C7 S2Q3, C15 S2Q4, C16 SG, C17 A4OUT, C18 VRD, C19 TGB, C20 P2B, C21 GND, D1 P1B, D2 P3B, D3 RG, D4 VOD, D5 VOG, D6 S1Q3, D7 S3, D16 S1Q4, D17 VOG, D18 VOD, D19 RG, D20 P3B, D21 P1B

## FDV304P
designator Q?
P-MOSFET LOGIC LEVEL; Manufacturer: FAIRCHILD; Vendor: DIGIKEY; Vendor p/n: FDV304PCT-ND; Vendor Mult.: 1; LCO p/n: 195-00004; Manuf p/n: FDV304P; COST: 0.46; VALUE: FDV304P
simulation model PMOS (MOSFET-P)
footprint SMD_SOT23_3
pins: 1 G, 2 S, 3 D
text: s

## Ferrite Bead SMD 1210
designator FB?, comment Bead  value 0uH
Ferrite Bead  SMD 1210
simulation model INDUCTOR (Inductor)
signal-integrity model Inductor
footprint SMD_1210_INDUCT
pins: 1, 2

## FIN1002M5
designator U?  value FIN1002M5X
LVDS RECIEVER; Manufacturer: FAIRCHILD; Vendor: DIGIKEY; Vendor p/n: FIN1002M5XCT-ND; Vendor Mult.: 1; LCO p/n: 150-00037; COST: 0.84; Manuf p/n: FIN1002M5X
footprint SOT-23 5 (Footprint not found)
pins: 1 VCC (power), 2 GND (power), 3 RI+ (in), 4 RI- (in), 5 ROUT (out)

## FOD0708
designator U?  value FOD0708
CMOS Optocoupler
footprint 182H_M (8-Pin Small Outline Integrated Circuit 1.27 mm Pitch, IPC Low Density)
pins: 1 NC, 2 Anode, 3 Cathode, 4 NC, 5 GND, 6 Out, 7 NC, 8 VCC

## Fuse Resettable
designator F?, comment value 000 mA  (hidden comment: Res 0805)
Polyswitch
footprint SMD_1206
footprint SMD 2920  PolySwitch (Use with SMD polyswitch fuse)
pins: 1, 2

## Fuse RXEF050
designator F?, comment value 0.5A Hold/1A Trip  (hidden comment: Radial)
Polyswitch RXEF series; Manufacturer: TE Connectivity; Manuf p/n: RXEF050; Vendor: Digi-Key; Vendor p/n: RXEF050-ND; Vendor Mult.: 1; LCO p/n: 145-00006
footprint PolySwitch RXEF050 (PolySwitch footprint)
pins: 1, 2

## Fuse Thermal
designator F?
PolySwitch RUE Series
footprint PolySwitch Radial 0.2 (PolySwitch footprint)
pins: 1, 2

## FX11LA-68P
designator J?
HIROSE 68P Header; Manuf p/n: FX11LA-68P-SV(21); VALUE: 68pin Header; Vendor: DigiKey; Vendor Mult.: 1; Vendor p/n: H2533CT-ND; COST: 3.42; Manufacturer: HiRose
footprint FX11LA-68P (HIROSE HEADER 68 PIN)
pins: 1, 2, 3, 4, 5, 6, 7, 8, 9, 10, 11, 12, 13, 14, 15, 16, 17, 18, 19, 20, 21, 22, 23, 24, 25, 26, 27, 28, 29, 30, 31, 32, 33, 34, 35, 36, 37, 38, 39, 40, 41, 42, 43, 44, 45, 46, 47, 48, 49, 50, 51, 52, 53, 54, 55, 56, 57, 58, 59, 60, 61, 62, 63, 64, 65, 66, 67, 68

## FX11LA-68S
designator P?
HIROSE 68P Receptacle; Manuf p/n: FX11LA-68S-SV(21); VALUE: 68pin Recepacle; Vendor: DigiKey; Vendor Mult.: 1; Vendor p/n: H2541CT-ND; COST: 4.03; Manufacturer: HiRose
footprint FX11LA-68S (HIROSE RECEPTACLE 68 PIN)
pins: 1, 2, 3, 4, 5, 6, 7, 8, 9, 10, 11, 12, 13, 14, 15, 16, 17, 18, 19, 20, 21, 22, 23, 24, 25, 26, 27, 28, 29, 30, 31, 32, 33, 34, 35, 36, 37, 38, 39, 40, 41, 42, 43, 44, 45, 46, 47, 48, 49, 50, 51, 52, 53, 54, 55, 56, 57, 58, 59, 60, 61, 62, 63, 64, 65, 66, 67, 68

## GAIN BLOCK
designator U?, comment Generic  (value not drawn)
Low Noise, High Speed Amplifier
footprint MSOP with PowerPAD (Shrink Small Outline, MSOP; 8 Leads; Body Width 3 mm; Pitch 0.65 mm)
pins: 1 LOGIC REF hidden, 8 /DISABLE hidden

## GND SYMBOL
designator *

## Hall Effect SMD
designator U?  value A1125  (hidden comment: *)
SOT-23, Allegro A1125; Manuf p/n: A1125LLHLT-T; LCO p/n: 150-00030; Vendor: Digi-Key; Vendor Mult.: 1; Vendor p/n: 620-1333-1-ND; COST: 1.43; Manufacturer: Allegro
footprint SMD_SOT23_3
pins: 1 VDD, 2 OUT, 3 GND
text: s

## Hall Effect TH
designator U?, comment SS441A
Honeywell SS441A; LCO p/n: 150-00079; Vendor: Digi-Key; Vendor Mult.: 1; Vendor p/n: 480-2001-ND; COST: 2.02; Manufacturer: Honeywell; Manuf p/n: SS441A; VALUE: SS441A
footprint TO-92 (TO, Flat Index; 3 In-Line, Axial Leads; Body Dia. 4.6mm; Leads 0.41 x 0.39 mm (max))
pins: 1 VDD, 2 GND, 3 OUT
text: s

## HDR 2x30   0.1"
designator J?  (value not drawn)
Manufacturer: FCI; Manuf p/n: 67997-472HLF; LCO p/n: 125-00124; VALUE: 2x36; Vendor: Digi-Key; Vendor p/n: 609-2221-ND
footprint HEADER 2X30 (0.1" SPACING)
part A pins: 1, 3, 5, 7, 9, 11, 13, 15, 17, 19, 21, 23, 25, 27, 29, 31, 33, 35, 37, 39, 41, 43, 45, 47, 49, 51, 53, 55, 57, 59
part B pins: 2, 4, 6, 8, 10, 12, 14, 16, 18, 20, 22, 24, 26, 28, 30, 32, 34, 36, 38, 40, 42, 44, 46, 48, 50, 52, 54, 56, 58, 60

## Header 2
designator P?
Header, 2-Pin; Manufacturer: TE Connectivity; Manuf p/n: 640456-2; Vendor: Digi-Key; Vendor p/n: A1921-ND; LCO p/n: 125-00110; VALUE: Header 2
signal-integrity model Connector
footprint HDR1X2 for IDC (Connector; Header; 4 Position)
pins: 1, 2

## Header 2 PWR
designator P?, comment Header PWR 2 Pin
Header, 2-Pin; LCO p/n: 125-00041; VALUE: Header 2-pin PWR
signal-integrity model Connector
footprint HDR-2 pin w/screw (TYCO p/n 796867-2)
pins: 1, 2

## Header 2 SCREW RT
designator P?, comment value Header 2 SCREW RT  (hidden comment: Header 2 for screw term)
Phoenix MCV series; Manuf p/n: 1803277; Vendor: DigiKey; Vendor p/n: 277-1206-ND; Vendor Mult.: 1; LCO p/n: 125-00122; Manufacturer: Phoenix; COST: 0.62
signal-integrity model Connector
footprint HDR 1x2 PHX RT ANGLE (Phoenix 1803277)
pins: 1, 2

## Header 3 PWR
designator P?, comment Header PWR 3 Pin
Header, 3-Pin; Manufacturer: Tyco; Manuf p/n: 796867-3; Vendor: DigiKey; Vendor p/n: A98308-ND; LCO p/n: 125-00095; VALUE: Header 3-pin PWR
signal-integrity model Connector
footprint HDR-3 pin w/screw (TYCO p/n 796867-3)
pins: 1, 2, 3

## Header 3, 0.156
designator P?, comment Header 3  value Header 3, 0.156
Header, 3-Pin, 0.156; LCO p/n: 125-00083
signal-integrity model Connector
footprint HDR 1X3 0.156" (Connector; Header; 3 Position)
pins: 1, 2, 3

## Header 3, 0.156 RT ANGLE
designator P?, comment Header 3  value Header 3, 0.156, RT ANGLE
Header, 3-Pin, 0.156, RT ANGLE; Manufacturer: TE Connectivity; Manuf p/n: 640389-3; Vendor: Digi-Key; Vendor p/n: A19920-ND; Vendor Mult.: 1; LCO p/n: 125-00104
signal-integrity model Connector
footprint HDR 1X3 0.156" - RT ANGLE (Connector; Header; 3 Position, RT Angle)
pins: 1, 2, 3

## Header 3, MTA100
designator P?, comment Header 3
Header, 4-Pin; LCO p/n: 125-00182; VALUE: Header 3
signal-integrity model Connector
footprint HDR1X3 for IDC (Connector; Header; 3 Position)
pins: 1, 2, 3

## Header 4
designator P?
Header, 4-Pin; LCO p/n: 125-00037; VALUE: Header 4
signal-integrity model Connector
footprint HDR1X4 for IDC (Connector; Header; 4 Position)
pins: 1, 2, 3, 4

## Header 4 0.156"
designator P?  value Header 4  0.156"
Header, 4-Pin; Manufacturer: Tyco; Manuf p/n: 640445-4; Vendor: Digi-Key; Vendor p/n: A1972-ND; Vendor Mult.: 1; LCO p/n: 125-00115
signal-integrity model Connector
footprint HDR 1X4 0.156" (Connector; Header; 4 Position)
pins: 1, 2, 3, 4

## Header 4 PWR
designator P?, comment Header PWR 4 Pin
Header, 4-Pin; Manufacturer: tyco; Manuf p/n: 796867-4; Vendor: Digi-key; Vendor p/n: A98457-ND; Vendor Mult.: 1; LCO p/n: 125-00082; VALUE: Header 4-pin PWR
signal-integrity model Connector
footprint HDR-4 pin w/screw (TYCO p/n 796867-4)
pins: 1, 2, 3, 4

## Header 4 SCREW RT
designator P?, comment Header 4 for screw term  value Header 4 SCREW RT
Phoenix MCV series; Manuf p/n: 1803293; Vendor: DigiKey; Vendor p/n: 277-1208-ND; Vendor Mult.: 1; LCO p/n: 125-00123; Manufacturer: Phoenix; COST: 1.27
signal-integrity model Connector
footprint HDR 1x4 PHX RT ANGLE (Phoenix 1803293)
pins: 1, 2, 3, 4

## Header 6
designator P?
Header, 6-Pin; LCO p/n: 125-00033; VALUE: Header 6
signal-integrity model Connector
footprint HDR1X6 for IDC (Connector; Header; 6 Position)
pins: 1, 2, 3, 4, 5, 6

## Header 6 0.156"
designator P?  value Header 6  0.156"
Header, 6-Pin; Manufacturer: Tyco; Manuf p/n: 640445-6; Vendor: Digi-Key; Vendor p/n: A1973-ND; Vendor Mult.: 1; COST: .33
signal-integrity model Connector
footprint HDR 1X6 0.156" (Connector; Header; 6 Position)
pins: 1, 2, 3, 4, 5, 6

## Header 8
designator P?
Header, 8-Pin; Manufacturer: tyco; Manuf p/n: 640456-8; Vendor: digi-key; Vendor p/n: A1924-ND; LCO p/n: 125-00047; VALUE: Header 8
signal-integrity model Connector
footprint HDR1X8 for IDC (Connector; Header; 8 Position)
footprint HDR1X8 for IDC (Connector; Header; 8 Position)
pins: 1, 2, 3, 4, 5, 6, 7, 8

## Header 8 0.156"
designator P?  value Header 8  0.156"
Header, 6-Pin; Manufacturer: Tyco; Manuf p/n: 640445-8; Vendor: Digi-Key; Vendor p/n: A1974-ND; Vendor Mult.: 1; LCO p/n: 125-00356; COST: .33
signal-integrity model Connector
footprint HDR 1X8 0.156" (Connector; Header; 8 Position)
pins: 1, 2, 3, 4, 5, 6, 7, 8

## Header 12
designator P?
Header, 12-Pin; Manufacturer: Tyco; Manuf p/n: 1-640456-2; Vendor: Digi-Key; Vendor p/n: A19475-ND; LCO p/n: 125-00055; COST: 0.57; VALUE: Header 12
signal-integrity model Connector
footprint HDR1X12 for IDC (Connector; Header; 12 Position)
pins: 1, 2, 3, 4, 5, 6, 7, 8, 9, 10, 11, 12

## Header 12 RT
designator P?
Header, 12-Pin Right Angle; VALUE: Header 12 RT
signal-integrity model Connector
footprint HDR 1x12 RT for IDC
pins: 1, 2, 3, 4, 5, 6, 7, 8, 9, 10, 11, 12

## Header 12 SCREW
designator P?, comment Header 12 for screw term  value Header 12 SCREW
Phoenix MCV series; Manuf p/n: MCV 1,5/12-G-3,81; Vendor: DigiKey; Vendor p/n: 277-1216-ND; Vendor Mult.: 1; Manufacturer: Phoenix; COST: 3.48
signal-integrity model Connector
footprint HDR 1x12 PHX (PHOENIX MCV 1,5/12-G-3,81)
footprint HDR 1x12 PHX RT ANGLE (PHOENIX MCV 1,5/12-G-3,81)
pins: 1, 2, 3, 4, 5, 6, 7, 8, 9, 10, 11, 12

## Header 20 for flex cable
designator P?
20 pin header, Samtec FC1 series
footprint FC1 Flex Cable connector 20 pos (Samtec p/n FC1-20-01-T)
pins: 1, 2, 3, 4, 5, 6, 7, 8, 9, 10, 11, 12, 13, 14, 15, 16, 17, 18, 19, 20

## Header 21 x 1
designator P?
21 pin header for IMS motor driver
pins: 1, 2, 3, 4, 5, 6, 7, 8, 9, 10, 11, 12, 13, 14, 15, 16, 17, 18, 19, 20, 21

## Header 25 for flex cable
designator P?
25 pin header, Samtec FC1 series
footprint FC1 Flex Cable connector 25 pos (Samtec p/n FC1-25-01-T)
pins: 1, 2, 3, 4, 5, 6, 7, 8, 9, 10, 11, 12, 13, 14, 15, 16, 17, 18, 19, 20, 21, 22, 23, 24, 25

## Heatsink TO-220, vertical
designator HS?, comment AAVID 7136DG
Manufacturer: Aavid Thermalloy; LCO p/n: 160-00017; Vendor: dk; Vendor p/n: S409-ND; Manuf p/n: 7136DG; VALUE: 7136DG

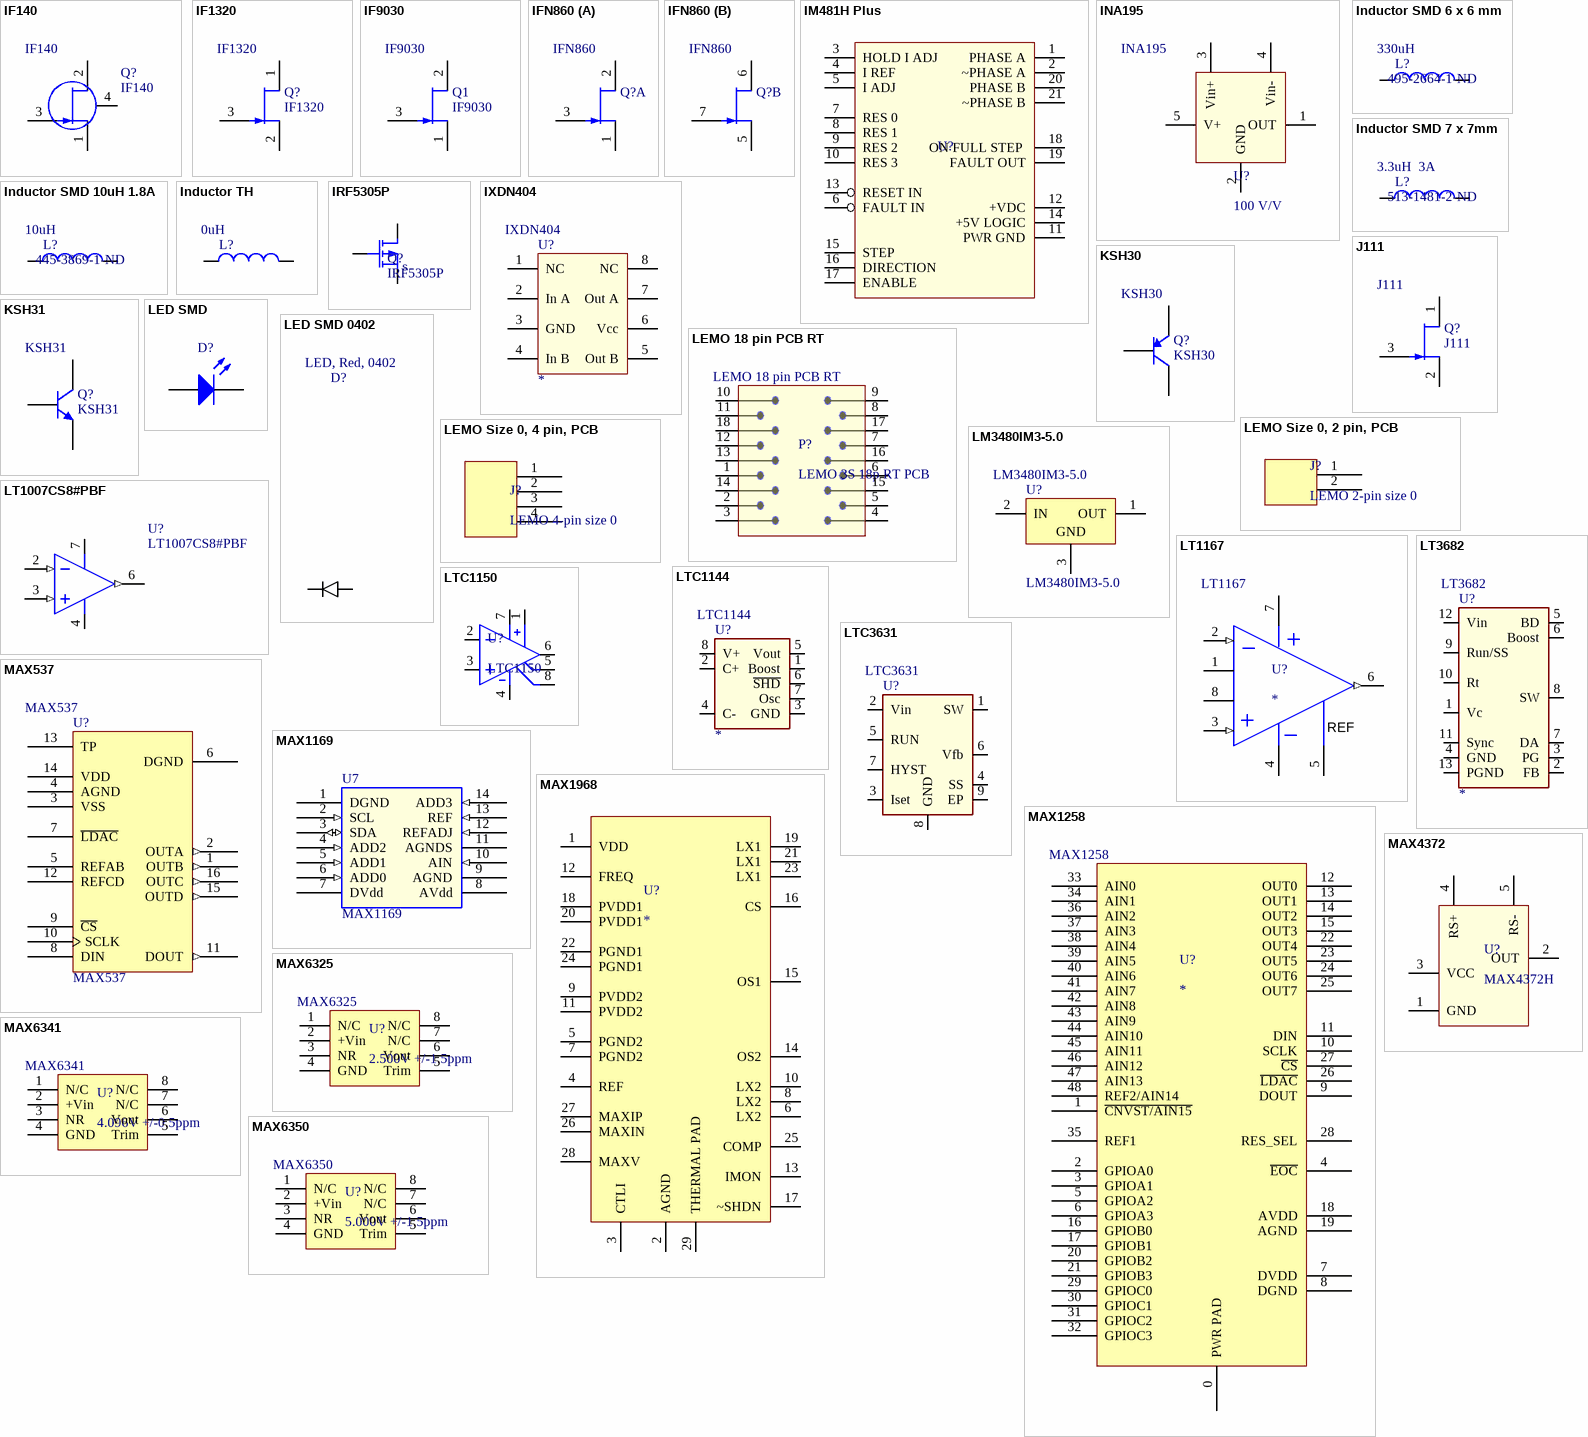
[diagram p4: symbols IF140 to MAX6350]

## IF140
designator Q?
N-JFET NJ14AL Process; VALUE: IF140
footprint TO-72 (Can; 4 Leads; Pin Circle Dia. 2.54 mm; Lead Dia. 0.48 mm (max))
pins: 1 S, 2 D, 3 G, 4 Case

## IF1320
designator Q?
N-JFET NJ132L Process; VALUE: IF1320
simulation model NJFET
footprint SOT23A (SOT-23; 3 Leads; Body 3.0 x 2.5 mm, inc. leads (LxW max))
pins: 1 D, 2 S, 3 G

## IF9030
designator Q1
N-JFET NJ9030L Process; VALUE: IF9030
simulation model NJFET
footprint TO-52 (Can; 3 Leads; Pin Circle Dia. 2.54 mm)
pins: 1 S, 2 D, 3 G

## IFN860
designator Q?
N-JFET NJ450L Process; Manufacturer: INTERFET; Vendor Mult.: 1; LCO p/n: 195-00005; Manuf p/n: IFN860; Vendor: INTERFET; Vendor p/n: IFN860; COST: 12.00; VALUE: IFN860
footprint TO-71 (Can; 7 Leads (1 Absent); Pin Circle Dia. 2.54 mm; Lead Dia. 0.48 mm (max))
part A pins: 1 S, 2 D, 3 G
part B pins: 5 S, 6 D, 7 G

## IM481H Plus
designator U?  (value not drawn)
Hybrid stepper motor driver; LCO p/n: 170-00001; VALUE: IM481H
footprint IM481H Vertical (Stepper motor driver)
pins: 1 PHASE A, 2 ~PHASE A, 3 HOLD I ADJ, 4 I REF, 5 I ADJ, 6 FAULT IN, 7 RES 0, 8 RES 1, 9 RES 2, 10 RES 3, 11 PWR GND, 12 +VDC, 13 RESET IN, 14 +5V LOGIC, 15 STEP, 16 DIRECTION, 17 ENABLE, 18 ON FULL STEP , 19 FAULT OUT, 20 PHASE B, 21 ~PHASE B

## INA195
designator U?, comment 100 V/V  value INA195
Current Shunt Monitor; Manufacturer: TI; Manuf p/n: INA195AIDBVR; LCO p/n: xxxxxxxxxxxxxxxxxxxxxxxx; Vendor: Digi-Key; Vendor Mult.: 1; Vendor p/n: 296-26067-1-ND; COST: 2.80
footprint SMD_SOT23_5
pins: 1 OUT, 2 GND, 3 Vin+, 4 Vin-, 5 V+

## Inductor SMD 6 x 6 mm
designator L?, comment 495-2664-1-ND  value 330uH
Inductor; Manufacturer: EPCOS; Manuf p/n: B82462A4334K; Vendor: Digi-Key; Vendor Mult.: 1; LCO p/n: xxxxxxxx; Vendor p/n: 495-2664-1-ND; COST: 1.03
footprint SMT Inductor 6 x 6mm (EPCOS Series B82462A4)
pins: 1, 2

## Inductor SMD 7 x 7mm
designator L?, comment 513-1481-2-ND  value 3.3uH  3A
Inductor; Manufacturer: Coiltronics; Manuf p/n: SD7030-3R3-R; Vendor: Digi-Key; Vendor Mult.: 1; LCO p/n: 155-00007; Vendor p/n: 513-1481-2-ND; COST: 1.03
footprint SMT Inductor 7 x 7mm (Coiltronics SD7030 series)
pins: 1, 2

## Inductor SMD 10uH 1.8A
designator L?, comment 445-3869-1-ND  value 10uH
Inductor; Manufacturer: TDK; Manuf p/n: SLF7045T-100M1R8-H; Vendor: Digi-Key; Vendor Mult.: 1; Vendor p/n: 445-3869-1-ND
simulation model INDUCTOR (Inductor)
signal-integrity model Inductor
footprint Inductor TDC SLF (SLF series)
pins: 1, 2

## Inductor TH
designator L?  value 0uH  (hidden comment: Inductor TH)
Inductor
simulation model INDUCTOR (Inductor)
signal-integrity model Inductor
footprint Inductor TH (11.2 mm DIA, 5 mm lead spacing)
pins: 1, 2

## IRF5305P
designator Q?
P-Chan MOSFET; Manufacturer: INT'l Rectifier; Manuf p/n: IRFR5305TRPBF; LCO p/n: 150-00093; Vendor: Digi-Key; Vendor Mult.: 1; Vendor p/n: IRFR5305PBFCT-ND; VALUE: IRF5305P
simulation model PMOS (MOSFET-P)
footprint TO-252(D-PAK)  PowerPAD (D-PAK, 3-Pads, Body 6.2x6.7mm (max), IPC Medium Density)
pins: 1 G, 2 D, 3 S
text: s

## IXDN404
designator U?  value IXDN404
MOSFET driver non-inverting; Manufacturer: IXYS; Manuf p/n: IXDN404SIA; Vendor: DIGIKEY; Vendor p/n: IXDN404SIA-ND; Vendor Mult.: 1; LCO p/n: 150-00042; COST: 2.65
footprint DIP-8 (DIP; 8 Leads; Row Spacing 7.62 mm; Pitch 2.54 mm)
footprint 182H_M (8-Pin Small Outline Integrated Circuit 1.27 mm Pitch, IPC Low Density)
pins: 1 NC, 2 In A, 3 GND, 4 In B, 5 Out B, 6 Vcc, 7 Out A, 8 NC

## J111
designator Q?
N-JFET SWITCH 35V; VALUE: J111
simulation model NJFET
footprint TO-92A OFFSET (TO, Flat Index; 3 In-Line, Axial Leads; Body Dia. 4.5mm; Leads 0.51 x 0.48 mm (max))
pins: 1 D, 2 S, 3 G

## KSH30
designator Q?
PNP TO-252 (D-PAK); VALUE: KSH30
footprint TO-252(D-PAK)  PowerPAD (D-PAK, 3-Pads, Body 6.2x6.7mm (max), IPC Medium Density)
pins: 1 B, 2 C, 3 E

## KSH31
designator Q?
NPN TO-252 (D-PAK); Manufacturer: fAIRCHILD; Manuf p/n: KSH31CTF; Vendor: DIGI-KEY; Vendor p/n: KSH31CTFTR-ND; LCO p/n: 195-00010; VALUE: KSH31
footprint TO-252(D-PAK)  PowerPAD (D-PAK, 3-Pads, Body 6.2x6.7mm (max), IPC Medium Density)
pins: 1 B, 2 C, 3 E

## LED SMD
designator D?  (value not drawn)
Typical BLUE SiC LED; Manufacturer: PANASONIC SSG; Manuf p/n: LNJ306G5UUX; Vendor: DIGIKEY; Vendor p/n: P11500CT-ND; Vendor Mult.: 1; LCO p/n: 140-00008; COST: 0.33; VALUE: LED SMD
simulation model LED3 (Diode)
signal-integrity model LED
footprint SMD_0805_LED
pins: ANOD Anode, CATH Cathode

## LED SMD 0402
designator D?  value LED, Red, 0402  (hidden comment: *)
RED LED, 0402 SMD; Manufacturer: Rohm; Manuf p/n: SML-P11UTT86; LCO p/n: 140-00013; Vendor: DigiKey; Vendor Mult.: 1; Vendor p/n: 511-1653-1-ND
footprint LED SMD 0402 (Chip Capacitor; Body 1.0 x 0.5 mm (LxW typ))
pins: 1 Cathode, 2 Anode

## LEMO 18 pin PCB RT
designator P?, comment LEMO 3S 18p RT PCB  value LEMO 18 pin PCB RT
LEMO S3 18p RT
footprint LEMO SIZE 3 18-pin PCB
pins: 1, 2, 3, 4, 5, 6, 7, 8, 9, 10, 11, 12, 13, 14, 15, 16, 17, 18

## LEMO Size 0, 2 pin, PCB
designator J?, comment LEMO 2-pin size 0
footprint LEMO Size 0, 4-pin PCB
footprint LEMO Size 0, 2-pin PCB
pins: 1 S29, 2 S30

## LEMO Size 0, 4 pin, PCB
designator J?, comment LEMO 4-pin size 0
footprint LEMO Size 0, 4-pin PCB
pins: 1 S29, 2 S30, 3 S31, 4 S32

## LM3480IM3-5.0
designator U?
3-Terminal Positive Regulator; Manufacturer: National; Vendor: Newark; Vendor p/n: 83F3816; Vendor Mult.: 1; LCO p/n: 150-00044; Manuf p/n: LM3480IM3-5.0; COST: 1.04; VALUE: LM3480IM3-5.0
footprint SOT23A (SOT-23; 3 Leads; Body 3.0 x 2.5 mm, inc. leads (LxW max))
pins: 1 OUT, 2 IN, 3 GND

## LT1007CS8#PBF
designator U?
Low Noise BJT input opamp; Manufacturer: Linear Tech; LCO p/n: 150-00067; VALUE: LT1007; Vendor: DigiKey; Vendor Mult.: 1; Vendor p/n: LT1007CS8#PBF-ND; COST: 4.13; Manuf p/n: LT1007CS8#PBF
footprint S8_M (SOIC, 8-Leads, Body 4.9x3.9mm, Pitch 1.27mm, IPC Low Density)
3D model S8 (8-Pin Small Outline Integrated Circuit 1.27 mm Pitch)
pins: 1 VOSTRIM hidden, 2 IN- (in), 3 IN+ (in), 4 V- (power), 5 NC hidden, 6 OUT (out), 7 V+ (power), 8 VOSTRIM hidden

## LT1167
designator U?  value LT1167
Instrumentation Amplifier; Manufacturer: Linear Tech; Manuf p/n: LT1167CS8#PBF; Vendor: DigiKey; Vendor Mult.: 1; Vendor p/n: LT1167CS8#PBF-ND; COST: 6.38
footprint NSO8_M (8-Pin Small Outline Integrated Circuit 1.27 mm Pitch, IPC Low Density)
pins: 1 RG, 2 -IN (in), 3 +IN (in), 4 -Vs, 5 REF, 6 OUT (out), 7 +Vs, 8 RG

## LT3682
designator U?  value LT3682
1A uPwr Step-Down switching regulator; Manufacturer: Linear; Manuf p/n: LT3682EDD#PBF; LCO p/n: 150-00069; Vendor: Digi-Key; Vendor Mult.: 1; Vendor p/n: LT3682EDD#PBF-ND; COST: 6.28
footprint DD12/DFN12 (SON, 12-Leads, Body 3x3 mm, Pitch 0.45mm, IPC High Density)
pins: 1 Vc, 2 FB, 3 PG, 4 GND (power), 5 BD, 6 Boost, 7 DA, 8 SW, 9 Run/SS, 10 Rt, 11 Sync, 12 Vin, 13 PGND

## LTC1144
designator U?  value LTC1144
IC VOLT CONV SW-CAP W/SHTDN8SOIC; Manufacturer: Linear; Manuf p/n: LTC1144CS8#PBF; LCO p/n: 150-00070; Vendor: Digi_Key; Vendor Mult.: 1; Vendor p/n: LTC1144CS8#PBF-ND; COST: 4.90
footprint S8_M (SOIC, 8-Leads, Body 4.9x3.9mm, Pitch 1.27mm, IPC Low Density)
pins: 1 Boost, 2 C+, 3 GND, 4 C-, 5 Vout, 6 ~{SHD}, 7 Osc, 8 V+ (power)

## LTC1150
designator U?
Zero-drift Op-amp; Manufacturer: Linear Tech; Manuf p/n: LTC1150CS8#PBF; Vendor: DigiKey; Vendor Mult.: 1; Vendor p/n: LTC1150CS8#PBF-ND; COST: 8.80; VALUE: LTC1150
footprint NSO8_M (8-Pin Small Outline Integrated Circuit 1.27 mm Pitch, IPC Low Density)
pins: 1 Isply, 2 -IN, 3 +IN, 4 -Vs, 5 Ext Clk, 6 OUT, 7 +Vs, 8 CLK OUT

## LTC3631
designator U?  value LTC3631  (hidden comment: *)
IC CONV STP-DWN ADJ 8-DFN; Manufacturer: Linear; Manuf p/n: LTC3631EDD#PBF; LCO p/n: 150-00071; Vendor: Digi-Key; Vendor Mult.: 1; Vendor p/n: LTC3631EDD#PBF-ND; COST: 6.28
footprint DD8/DFN8
pins: 1 SW, 2 Vin, 3 Iset, 4 SS, 5 RUN, 6 Vfb, 7 HYST, 8 GND, 9 EP

## MAX537
designator U?
MAX537 Quad 12bit DAC; VALUE: MAX537
footprint WSO16_M (SOIC, 16-Leads, Body 10.3x7.5mm, Pitch 1.27mm, IPC Low Density)
pins: 1 OUTB (out), 2 OUTA (out), 3 VSS, 4 AGND, 5 REFAB, 6 DGND, 7 ~{LDAC}, 8 DIN, 9 ~{CS}, 10 SCLK, 11 DOUT (out), 12 REFCD, 13 TP, 14 VDD, 15 OUTD (out), 16 OUTC (out)

## MAX1169
designator U7
Maxim SAR ADC, 58.6ksps, 16-Bit, 2-Wire Serial ADC in a 14-Pin TSSOP; Manuf p/n: MAX1169CCUD; Vendor: MAXIM DIRECT; Vendor Mult.: 1; Vendor p/n: MAX1169CCUD+; LCO p/n: 150-00010; COST: 19.48; Manufacturer: MAXIM; Value: MAX1169
footprint TSSOP14 (Shrink Small Outline; 14 Leads; Body Width 4.4 mm; Pitch 0.65 mm)
pins: 1 DGND (power), 2 SCL (in), 3 SDA (io), 4 ADD2 (in), 5 ADD1 (in), 6 ADD0 (in), 7 DVdd (power), 8 AVdd (power), 9 AGND (power), 10 AIN (in), 11 AGNDS (power), 12 REFADJ (in), 13 REF (in), 14 ADD3 (in)

## MAX1258
designator U?  value MAX1258
12-Bit MultChan ADC/DAC; Manufacturer: MAXIM; Manuf p/n: MAX1258BETM+; Vendor: MAXIM DIRECT; Vendor Mult.: 1; LCO p/n: 150-00049; Vendor p/n: MAX1258BETM+; COST: 23.45
footprint QFN48_M (QFN, 48-Leads, Body 7x7mm, Pitch 0.5mm, IPC Low Density)
pins: 0 PWR PAD, 1 ~{CNVST/AIN15}, 2 GPIOA0, 3 GPIOA1, 4 ~{EOC}, 5 GPIOA2, 6 GPIOA3, 7 DVDD, 8 DGND, 9 DOUT, 10 SCLK, 11 DIN, 12 OUT0, 13 OUT1, 14 OUT2, 15 OUT3, 16 GPIOB0, 17 GPIOB1, 18 AVDD, 19 AGND, 20 GPIOB2, 21 GPIOB3, 22 OUT4, 23 OUT5, 24 OUT6, 25 OUT7, 26 ~{LDAC}, 27 ~{CS}, 28 RES_SEL, 29 GPIOC0, 30 GPIOC1, 31 GPIOC2, 32 GPIOC3, 33 AIN0, 34 AIN1, 35 REF1, 36 AIN2, 37 AIN3, 38 AIN4, 39 AIN5, 40 AIN6, 41 AIN7, 42 AIN8, 43 AIN9, 44 AIN10, 45 AIN11, 46 AIN12, 47 AIN13, 48 REF2/AIN14

## MAX1968
designator U?
TEC Driver +/- 3A; Manufacturer: Maxim; Manuf p/n: MAX1968EUI+; LCO p/n: 150-00096; VALUE: MAX1968; Vendor: digikey; Vendor p/n: MAX1968EUI+-ND
footprint TSSOP28 Exposed Pad (Shrink Small Outline; 28 Leads; Body Width 4.4 mm; Pitch 0.65 mm)
pins: 1 VDD, 2 AGND, 3 CTLI, 4 REF, 5 PGND2, 6 LX2, 7 PGND2, 8 LX2, 9 PVDD2, 10 LX2, 11 PVDD2, 12 FREQ, 13 IMON, 14 OS2, 15 OS1, 16 CS, 17 ~SHDN, 18 PVDD1, 19 LX1, 20 PVDD1, 21 LX1, 22 PGND1, 23 LX1, 24 PGND1, 25 COMP, 26 MAXIN, 27 MAXIP, 28 MAXV, 29 THERMAL PAD

## MAX4372
designator U?, comment MAX4372H
Current-sense amp  100V/V; Manufacturer: Maxim; Manuf p/n: MAX4372HEUK+T; Vendor: Digi-Key; Vendor Mult.: 1; Vendor p/n: MAX4372HEUK+TCT-ND; COST: 1.97; VALUE: MAX4372H
footprint SOT23-5 (SOT-23/SC-74A; 5 Leads; Body 3 x 3 mm, inc. leads (LxW max))
pins: 1 GND, 2 OUT, 3 VCC, 4 RS+, 5 RS-

## MAX6325
designator U?, comment 2.500V +/-1.5ppm  value MAX6325
VREF 2.500V 1.5ppm; Manufacturer: MAXIM; Manuf p/n: MAX6325ESA+; Vendor: DIGIKEY; Vendor p/n: MAX6325ESA+-ND; Vendor Mult.: 1; COST: 17.76
footprint NSO8_M (8-Pin Small Outline Integrated Circuit 1.27 mm Pitch, IPC Low Density)
pins: 1 N/C, 2 +Vin, 3 NR, 4 GND, 5 Trim, 6 Vout, 7 N/C, 8 N/C

## MAX6341
designator U?, comment 4.096V +/-0.5ppm  value MAX6341
VREF 4.096V 0.5ppm; Manufacturer: MAXIM; Manuf p/n: MAX6341CSA+; Vendor: DIGIKEY; Vendor p/n: MAX6341CSA+-ND; Vendor Mult.: 1; LCO p/n: 150-00052; COST: 17.76
footprint NSO8_M (8-Pin Small Outline Integrated Circuit 1.27 mm Pitch, IPC Low Density)
pins: 1 N/C, 2 +Vin, 3 NR, 4 GND, 5 Trim, 6 Vout, 7 N/C, 8 N/C

## MAX6350
designator U?, comment 5.000V +/-1.5ppm  value MAX6350
VREF 5.000V 1.5ppm; Manufacturer: MAXIM; Manuf p/n: MAX6350ESA+; Vendor: DIGIKEY; Vendor p/n: MAX6350ESA+-ND; Vendor Mult.: 1; LCO p/n: 150-00086; COST: 17.76
footprint NSO8_M (8-Pin Small Outline Integrated Circuit 1.27 mm Pitch, IPC Low Density)
pins: 1 N/C, 2 +Vin, 3 NR, 4 GND, 5 Trim, 6 Vout, 7 N/C, 8 N/C

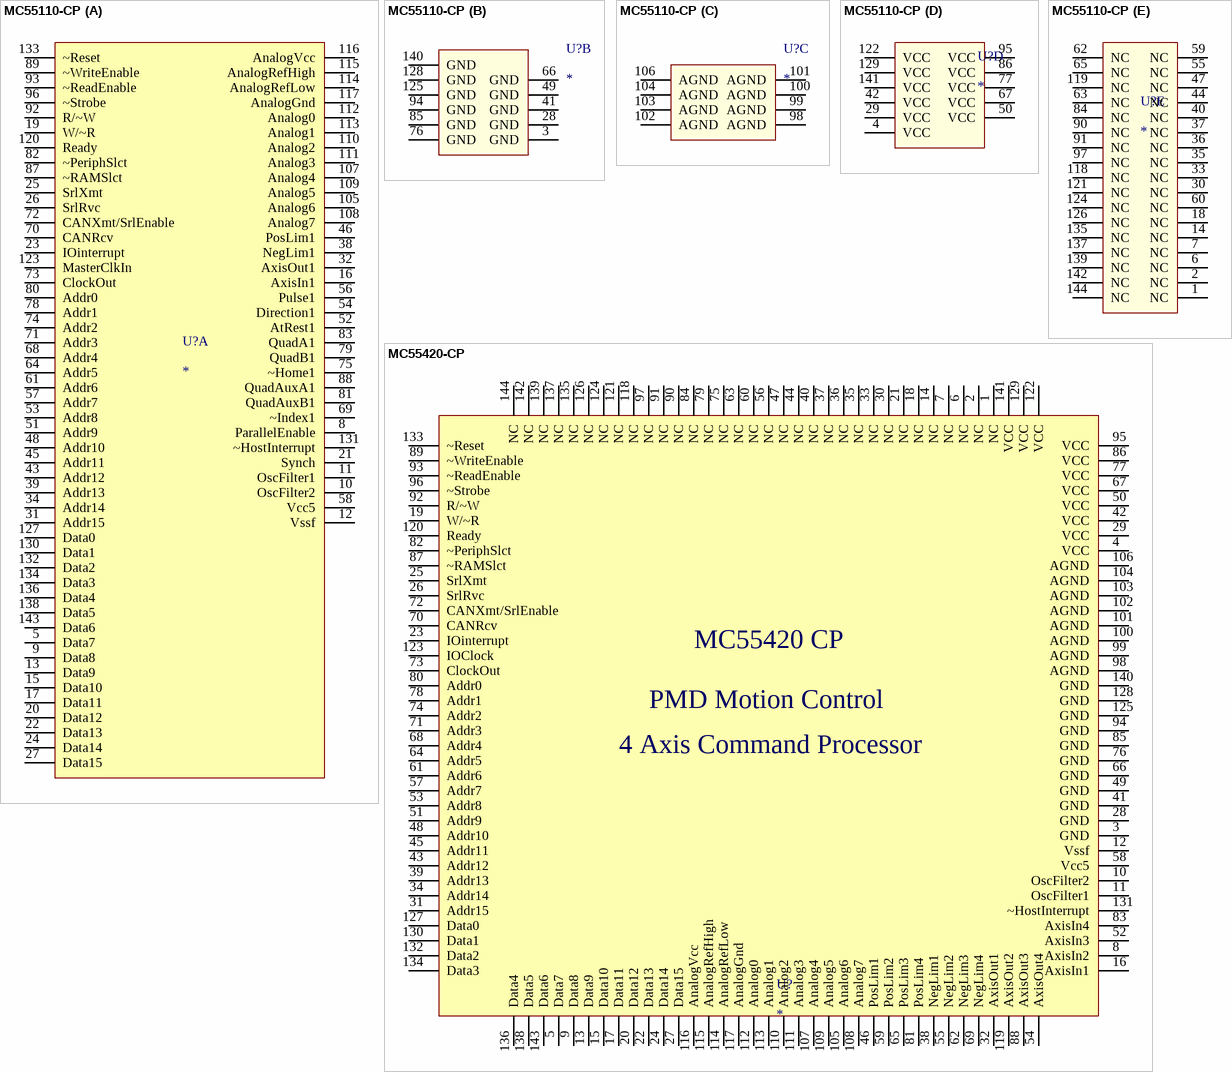
[diagram p5: symbols MC55110-CP to MC55420-CP]

## MC55110-CP
designator U?
PMD Single Axis Cmd Processor
footprint TQFP144_M (144-Pin Thin Quad Flat Pack (TQG144) - Pb-Free, IPC Low Density)
part A pins: 5 Data7, 8 ParallelEnable, 9 Data8, 10 OscFilter2, 11 OscFilter1, 12 Vssf, 13 Data9, 15 Data10, 16 AxisIn1, 17 Data11, 19 W/~R, 20 Data12, 21 Synch, 22 Data13, 23 IOinterrupt, 24 Data14, 25 SrlXmt, 26 SrlRvc, 27 Data15, 31 Addr15, 32 AxisOut1, 34 Addr14, 38 NegLim1, 39 Addr13, 43 Addr12, 45 Addr11, 46 PosLim1, 48 Addr10, 51 Addr9, 52 AtRest1, 53 Addr8, 54 Direction1, 56 Pulse1, 57 Addr7, 58 Vcc5, 61 Addr6, 64 Addr5, 68 Addr4, 69 ~Index1, 70 CANRcv, 71 Addr3, 72 CANXmt/SrlEnable, 73 ClockOut, 74 Addr2, 75 ~Home1, 78 Addr1, 79 QuadB1, 80 Addr0, 81 QuadAuxB1, 82 ~PeriphSlct, 83 QuadA1, 87 ~RAMSlct, 88 QuadAuxA1, 89 ~WriteEnable, 92 R/~W, 93 ~ReadEnable, 96 ~Strobe, 105 Analog6, 107 Analog4, 108 Analog7, 109 Analog5, 110 Analog2, 111 Analog3, 112 Analog0, 113 Analog1, 114 AnalogRefLow, 115 AnalogRefHigh, 116 AnalogVcc, 117 AnalogGnd, 120 Ready, 123 MasterClkIn, 127 Data0, 130 Data1, 131 ~HostInterrupt, 132 Data2, 133 ~Reset, 134 Data3, 136 Data4, 138 Data5, 143 Data6
part B pins: 3 GND, 28 GND, 41 GND, 49 GND, 66 GND, 76 GND, 85 GND, 94 GND, 125 GND, 128 GND, 140 GND
part C pins: 98 AGND, 99 AGND, 100 AGND, 101 AGND, 102 AGND, 103 AGND, 104 AGND, 106 AGND
part D pins: 4 VCC, 29 VCC, 42 VCC, 50 VCC, 67 VCC, 77 VCC, 86 VCC, 95 VCC, 122 VCC, 129 VCC, 141 VCC
part E pins: 1 NC, 2 NC, 6 NC, 7 NC, 14 NC, 18 NC, 30 NC, 33 NC, 35 NC, 36 NC, 37 NC, 40 NC, 44 NC, 47 NC, 55 NC, 59 NC, 60 NC, 62 NC, 63 NC, 65 NC, 84 NC, 90 NC, 91 NC, 97 NC, 118 NC, 119 NC, 121 NC, 124 NC, 126 NC, 135 NC, 137 NC, 139 NC, 142 NC, 144 NC

## MC55420-CP
designator U?
PMD Stepper Motor Cmd Processor
footprint TQFP144_M (Thin QFP, 144-Leads, Body 20x20mm, Pitch 0.5mm, IPC Low Density)
pins: 1 NC, 2 NC, 3 GND, 4 VCC, 5 Data7, 6 NC, 7 NC, 8 AxisIn2, 9 Data8, 10 OscFilter2, 11 OscFilter1, 12 Vssf, 13 Data9, 14 NC, 15 Data10, 16 AxisIn1, 17 Data11, 18 NC, 19 W/~R, 20 Data12, 21 NC, 22 Data13, 23 IOinterrupt, 24 Data14, 25 SrlXmt, 26 SrlRvc, 27 Data15, 28 GND, 29 VCC, 30 NC, 31 Addr15, 32 AxisOut1, 33 NC, 34 Addr14, 35 NC, 36 NC, 37 NC, 38 NegLim1, 39 Addr13, 40 NC, 41 GND, 42 VCC, 43 Addr12, 44 NC, 45 Addr11, 46 PosLim1, 47 NC, 48 Addr10, 49 GND, 50 VCC, 51 Addr9, 52 AxisIn3, 53 Addr8, 54 AxisOut4, 55 NegLim2, 56 NC, 57 Addr7, 58 Vcc5, 59 PosLim2, 60 NC, 61 Addr6, 62 NegLim3, 63 NC, 64 Addr5, 65 PosLim3, 66 GND, 67 VCC, 68 Addr4, 69 NegLim4, 70 CANRcv, 71 Addr3, 72 CANXmt/SrlEnable, 73 ClockOut, 74 Addr2, 75 NC, 76 GND, 77 VCC, 78 Addr1, 79 NC, 80 Addr0, 81 PosLim4, 82 ~PeriphSlct, 83 AxisIn4, 84 NC, 85 GND, 86 VCC, 87 ~RAMSlct, 88 AxisOut3, 89 ~WriteEnable, 90 NC, 91 NC, 92 R/~W, 93 ~ReadEnable, 94 GND, 95 VCC, 96 ~Strobe, 97 NC, 98 AGND, 99 AGND, 100 AGND, 101 AGND, 102 AGND, 103 AGND, 104 AGND, 105 Analog6, 106 AGND, 107 Analog4, 108 Analog7, 109 Analog5, 110 Analog2, 111 Analog3, 112 Analog0, 113 Analog1, 114 AnalogRefLow, 115 AnalogRefHigh, 116 AnalogVcc, 117 AnalogGnd, 118 NC, 119 AxisOut2, 120 Ready, 121 NC, 122 VCC, 123 IOClock, 124 NC, 125 GND, 126 NC, 127 Data0, 128 GND, 129 VCC, 130 Data1, 131 ~HostInterrupt, 132 Data2, 133 ~Reset, 134 Data3, 135 NC, 136 Data4, 137 NC, 138 Data5, 139 NC, 140 GND, 141 VCC, 142 NC, 143 Data6, 144 NC
text: MC55420 CP; PMD Motion Control; 4 Axis Command Processor

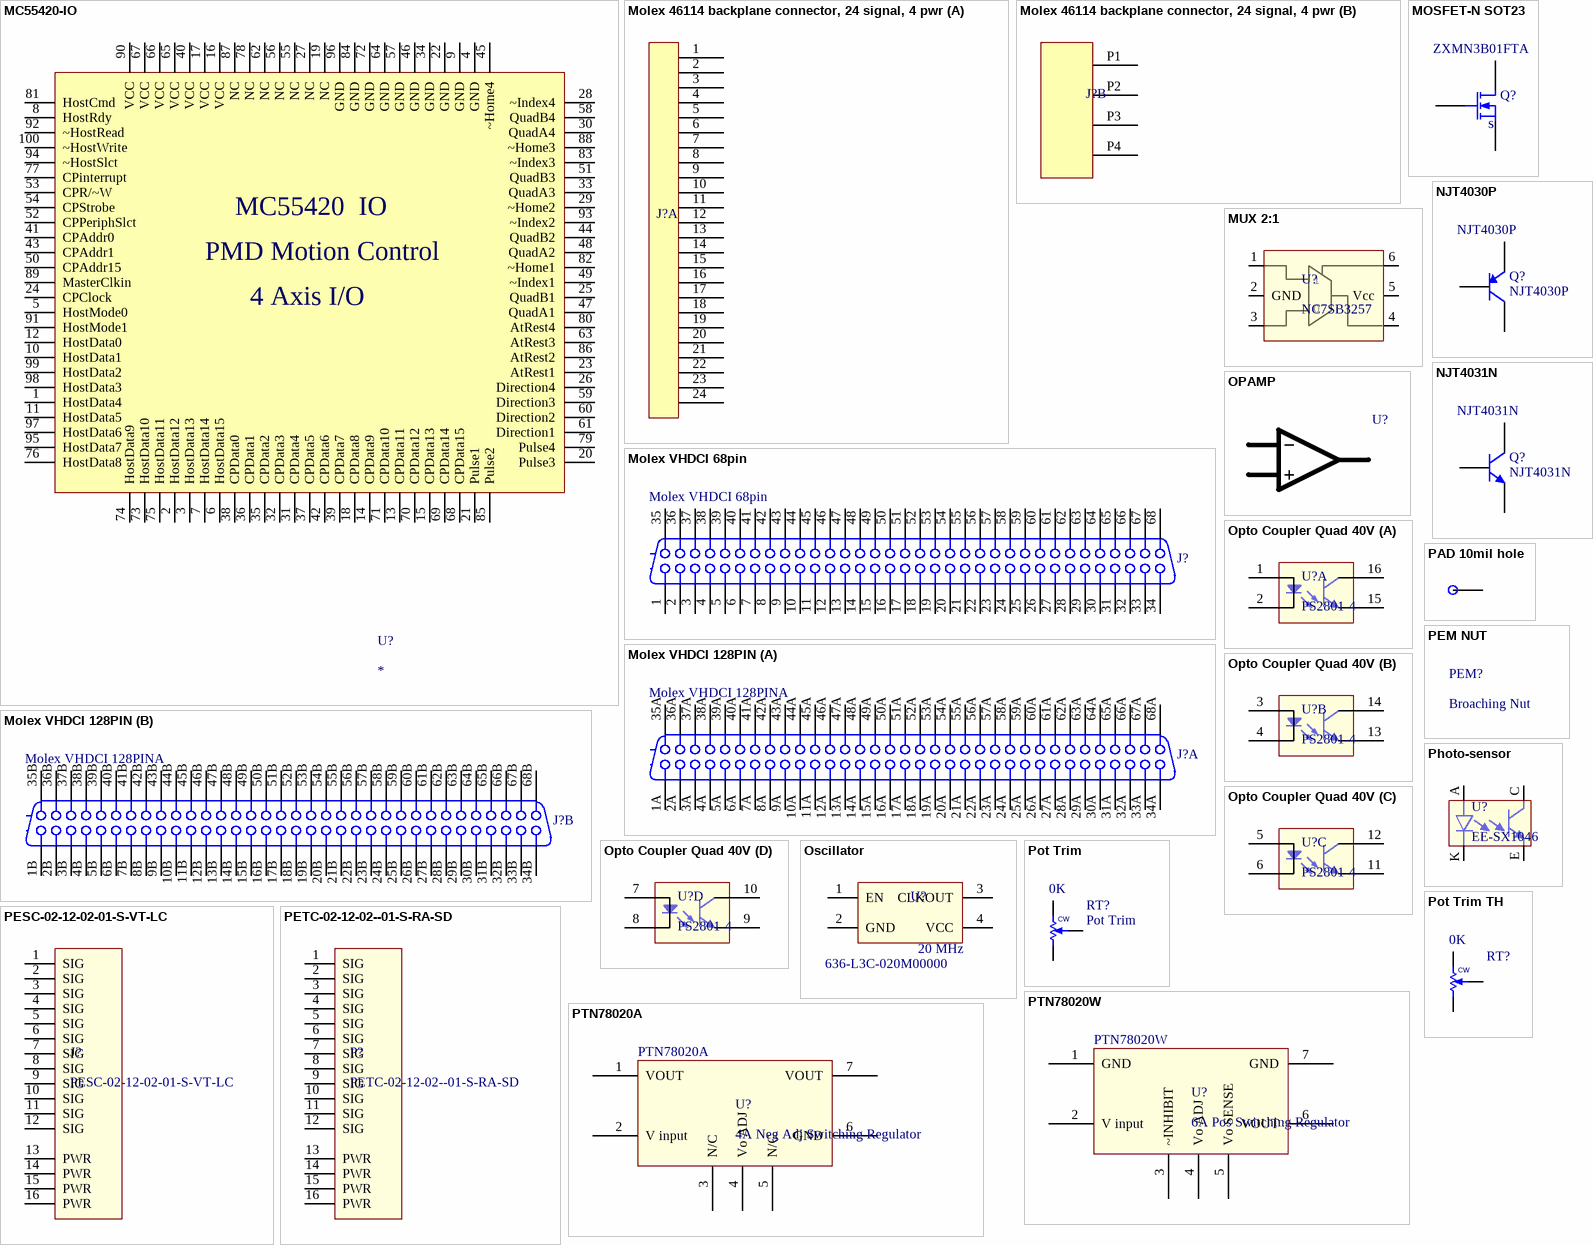
[diagram p6: symbols MC55420-IO to PTN78020W]

## MC55420-IO
designator U?
PMD Stepper Motor I/O Chip
footprint TQFP100_M (Thin QFP, 100-Leads, Body 14x14mm, Pitch 0.5mm, IPC Low Density)
pins: 1 HostData4, 2 HostData12, 3 HostData13, 4 GND, 5 HostMode0, 6 HostData15, 7 HostData14, 8 HostRdy, 9 GND, 10 HostData1, 11 HostData5, 12 HostData0, 13 CPData11, 14 CPData9, 15 CPData13, 16 VCC, 17 VCC, 18 CPData8, 19 NC, 20 Pulse3, 21 Pulse1, 22 GND, 23 AtRest1, 24 CPClock, 25 QuadB1, 26 Direction4, 27 NC, 28 ~Index4, 29 ~Home2, 30 QuadA4, 31 CPData4, 32 CPData3, 33 QuadA3, 34 GND, 35 CPData2, 36 CPData1, 37 CPData5, 38 CPData0, 39 CPData7, 40 VCC, 41 CPAddr0, 42 CPData6, 43 CPAddr1, 44 QuadB2, 45 ~Home4, 46 GND, 47 QuadA1, 48 QuadA2, 49 ~Index1, 50 CPAddr15, 51 QuadB3, 52 CPPeriphSlct, 53 CPR/~W, 54 CPStrobe, 55 NC, 56 NC, 57 GND, 58 QuadB4, 59 Direction3, 60 Direction2, 61 Direction1, 62 NC, 63 AtRest3, 64 GND, 65 VCC, 66 VCC, 67 VCC, 68 CPData15, 69 CPData14, 70 CPData12, 71 CPData10, 72 GND, 73 HostData10, 74 HostData9, 75 HostData11, 76 HostData8, 77 CPinterrupt, 78 NC, 79 Pulse4, 80 AtRest4, 81 HostCmd, 82 ~Home1, 83 ~Index3, 84 GND, 85 Pulse2, 86 AtRest2, 87 NC, 88 ~Home3, 89 MasterClkin, 90 VCC, 91 HostMode1, 92 ~HostRead, 93 ~Index2, 94 ~HostSlct, 95 HostData7, 96 GND, 97 HostData6, 98 HostData3, 99 HostData2, 100 ~HostWrite
text: MC55420  IO; PMD Motion Control; 4 Axis I/O

## Molex 46114 backplane connector, 24 signal, 4 pwr
designator J?
Molex 46114 backplane connector, 24 signal, 4 pwr
footprint MOLEX 46114 SERIES (VERT MOUNT PCB)
part A pins: 1, 2, 3, 4, 5, 6, 7, 8, 9, 10, 11, 12, 13, 14, 15, 16, 17, 18, 19, 20, 21, 22, 23, 24
part B pins: P1 S25, P2 S26, P3 S27, P4 S28

## Molex VHDCI 68pin
designator J?
Receptacle Header Assemby; VALUE: Molex VHDCI 68pin
footprint Molex VHDCI 68pin
footprint HONDA VHDCI straddle mount (68 pin VHDCI PCB straddle mount)
footprint 3M Pak 50 68pin (68 pin RT angle thru hole)
pins: 1, 2, 3, 4, 5, 6, 7, 8, 9, 10, 11, 12, 13, 14, 15, 16, 17, 18, 19, 20, 21, 22, 23, 24, 25, 26, 27, 28, 29, 30, 31, 32, 33, 34, 35, 36, 37, 38, 39, 40, 41, 42, 43, 44, 45, 46, 47, 48, 49, 50, 51, 52, 53, 54, 55, 56, 57, 58, 59, 60, 61, 62, 63, 64, 65, 66, 67, 68

## Molex VHDCI 128PIN
designator J?  value Molex VHDCI 128PINA  (hidden comment: Molex VHDCI 128PIN)
Receptacle Header Assemby
footprint Molex VHDCI 136pin
part A pins: 1A 1, 2A 2, 3A 3, 4A 4, 5A 5, 6A 6, 7A 7, 8A 8, 9A 9, 10A 10, 11A 11, 12A 12, 13A 13, 14A 14, 15A 15, 16A 16, 17A 17, 18A 18, 19A 19, 20A 20, 21A 21, 22A 22, 23A 23, 24A 24, 25A 25, 26A 26, 27A 27, 28A 28, 29A 29, 30A 30, 31A 31, 32A 32, 33A 33, 34A 34, 35A 35, 36A 36, 37A 37, 38A 38, 39A 39, 40A 40, 41A 41, 42A 42, 43A 43, 44A 44, 45A 45, 46A 46, 47A 47, 48A 48, 49A 49, 50A 50, 51A 51, 52A 52, 53A 53, 54A 54, 55A 55, 56A 56, 57A 57, 58A 58, 59A 59, 60A 60, 61A 61, 62A 62, 63A 63, 64A 64, 65A 65, 66A 66, 67A 67, 68A 68
part B pins: 1B 1, 2B 2, 3B 3, 4B 4, 5B 5, 6B 6, 7B 7, 8B 8, 9B 9, 10B 10, 11B 11, 12B 12, 13B 13, 14B 14, 15B 15, 16B 16, 17B 17, 18B 18, 19B 19, 20B 20, 21B 21, 22B 22, 23B 23, 24B 24, 25B 25, 26B 26, 27B 27, 28B 28, 29B 29, 30B 30, 31B 31, 32B 32, 33B 33, 34B 34, 35B 35, 36B 36, 37B 37, 38B 38, 39B 39, 40B 40, 41B 41, 42B 42, 43B 43, 44B 44, 45B 45, 46B 46, 47B 47, 48B 48, 49B 49, 50B 50, 51B 51, 52B 52, 53B 53, 54B 54, 55B 55, 56B 56, 57B 57, 58B 58, 59B 59, 60B 60, 61B 61, 62B 62, 63B 63, 64B 64, 65B 65, 66B 66, 67B 67, 68B 68

## MOSFET-N SOT23
designator Q?  Manuf p/n: ZXMN3B01FTA
N Chan MOSFET LOGIC LEVEL; Vendor Mult.: 1; LCO p/n: 195-00002; COST: 0.46
simulation model PMOS (MOSFET-P)
footprint SMD_SOT23_3
pins: 1 G, 2 S, 3 D
text: s

## MUX 2:1
designator U?, comment NC7SB3257
Mux/Demux Bus Switch; Manufacturer: Fairchild; Manuf p/n: NC7SB3257P6X; LCO p/n: 150-00084; Vendor: Digi-Key; Vendor Mult.: 1; Vendor p/n: NC7SB3257P6XCT-ND; COST: 0.65; VALUE: NC7SB3257
footprint SC70-LT6_M (SOT363, 6-Leads, Body 2x1.3mm, Pitch 0.65mm, Lead Span 2.1mm, IPC Low Density)
pins: 1 B1, 2 GND, 3 B0, 4 A, 5 Vcc, 6 S
text: 0

## NJT4030P
designator Q?
PNP 40V 3A 2W; Manufacturer: ON Semi; Manuf p/n: 'NJT4030PT3G; Vendor: DIGIKEY; Vendor p/n: NJT4030PT3GOSCT-ND; Vendor Mult.: 1; LCO p/n: 195-00007; COST: 0.33; VALUE: NJT4030P
footprint SOT223 w/PowerPAD (SOT-223/SC-73; 4 Leads; Body 6.7 x 7.3 mm, inc. leads (LxW max))
pins: 1 B, 3 E, 4 C

## NJT4031N
designator Q?
NPN 40V 3A 2W; Manufacturer: ON Semi; Manuf p/n: NJT4031NT1G; Vendor: DIGIKEY; Vendor p/n: NJT4031NT1GOSCT-ND; Vendor Mult.: 1; LCO p/n: 195-00001; COST: 0.44; VALUE: NJT4031N
footprint SOT223 w/PowerPAD (SOT-223/SC-73; 4 Leads; Body 6.7 x 7.3 mm, inc. leads (LxW max))
pins: 1 B, 3 E, 4 C

## OPAMP
designator U?, comment Generic  (value not drawn)
Low Noise, High Speed Amplifier
footprint MSOP with PowerPAD (Shrink Small Outline, MSOP; 8 Leads; Body Width 3 mm; Pitch 0.65 mm)
pins: 1 LOGIC REF hidden, 8 /DISABLE hidden

## Opto Coupler Quad 40V
designator U?, comment PS2801-4
Quad Opto Coupler Open Collector; Manufacturer: NEC; Manuf p/n: PS2801C-4-F3-A; VALUE: PS2301; Vendor: digikey; Vendor Mult.: 1; Vendor p/n: PS2801C-4-F3-ACT-ND; LCO p/n: 150-00012; COST: 2.04
footprint SO-16 (Small Outline; 16 Leads; Body Width 5.6 mm; Pitch 1.27 mm)
part A pins: 1 Anode, 2 Cathode, 15 Emitter, 16 Collector
part B pins: 3 Anode, 4 Cathode, 13 Emitter, 14 Collector
part C pins: 5 Anode, 6 Cathode, 11 Emitter, 12 Collector
part D pins: 7 Anode, 8 Cathode, 9 Emitter, 10 Collector

## Oscillator
designator U?  value 20 MHz  VENDOR P/N: 636-L3C-020M00000  (hidden comment: *)
SMD 5 x 3.2mm
footprint SMT 5X3.2mm
pins: 1 EN, 2 GND, 3 CLKOUT, 4 VCC

## PAD 10mil hole
designator *  (value not drawn)
footprint PAD, 10mil hole
pins: 1 pin

## PEM NUT
designator PEM?, comment Broaching Nut  (mechanical)

## PESC-02-12-02-01-S-VT-LC
designator J?
SAMTEC, SIGNAL(12)+PWR(4), VERT
footprint PESC-02-12-02-01-S-VT-LC (SAMTEC FEM SOCKETS, PWR(4), SIGNAL(12), VERT MOUNT)
pins: 1 SIG, 2 SIG, 3 SIG, 4 SIG, 5 SIG, 6 SIG, 7 SIG, 8 SIG, 9 SIG, 10 SIG, 11 SIG, 12 SIG, 13 PWR, 14 PWR, 15 PWR, 16 PWR